# Altium integrated library linear.IntLib: 649 symbols (part 2 of 4)
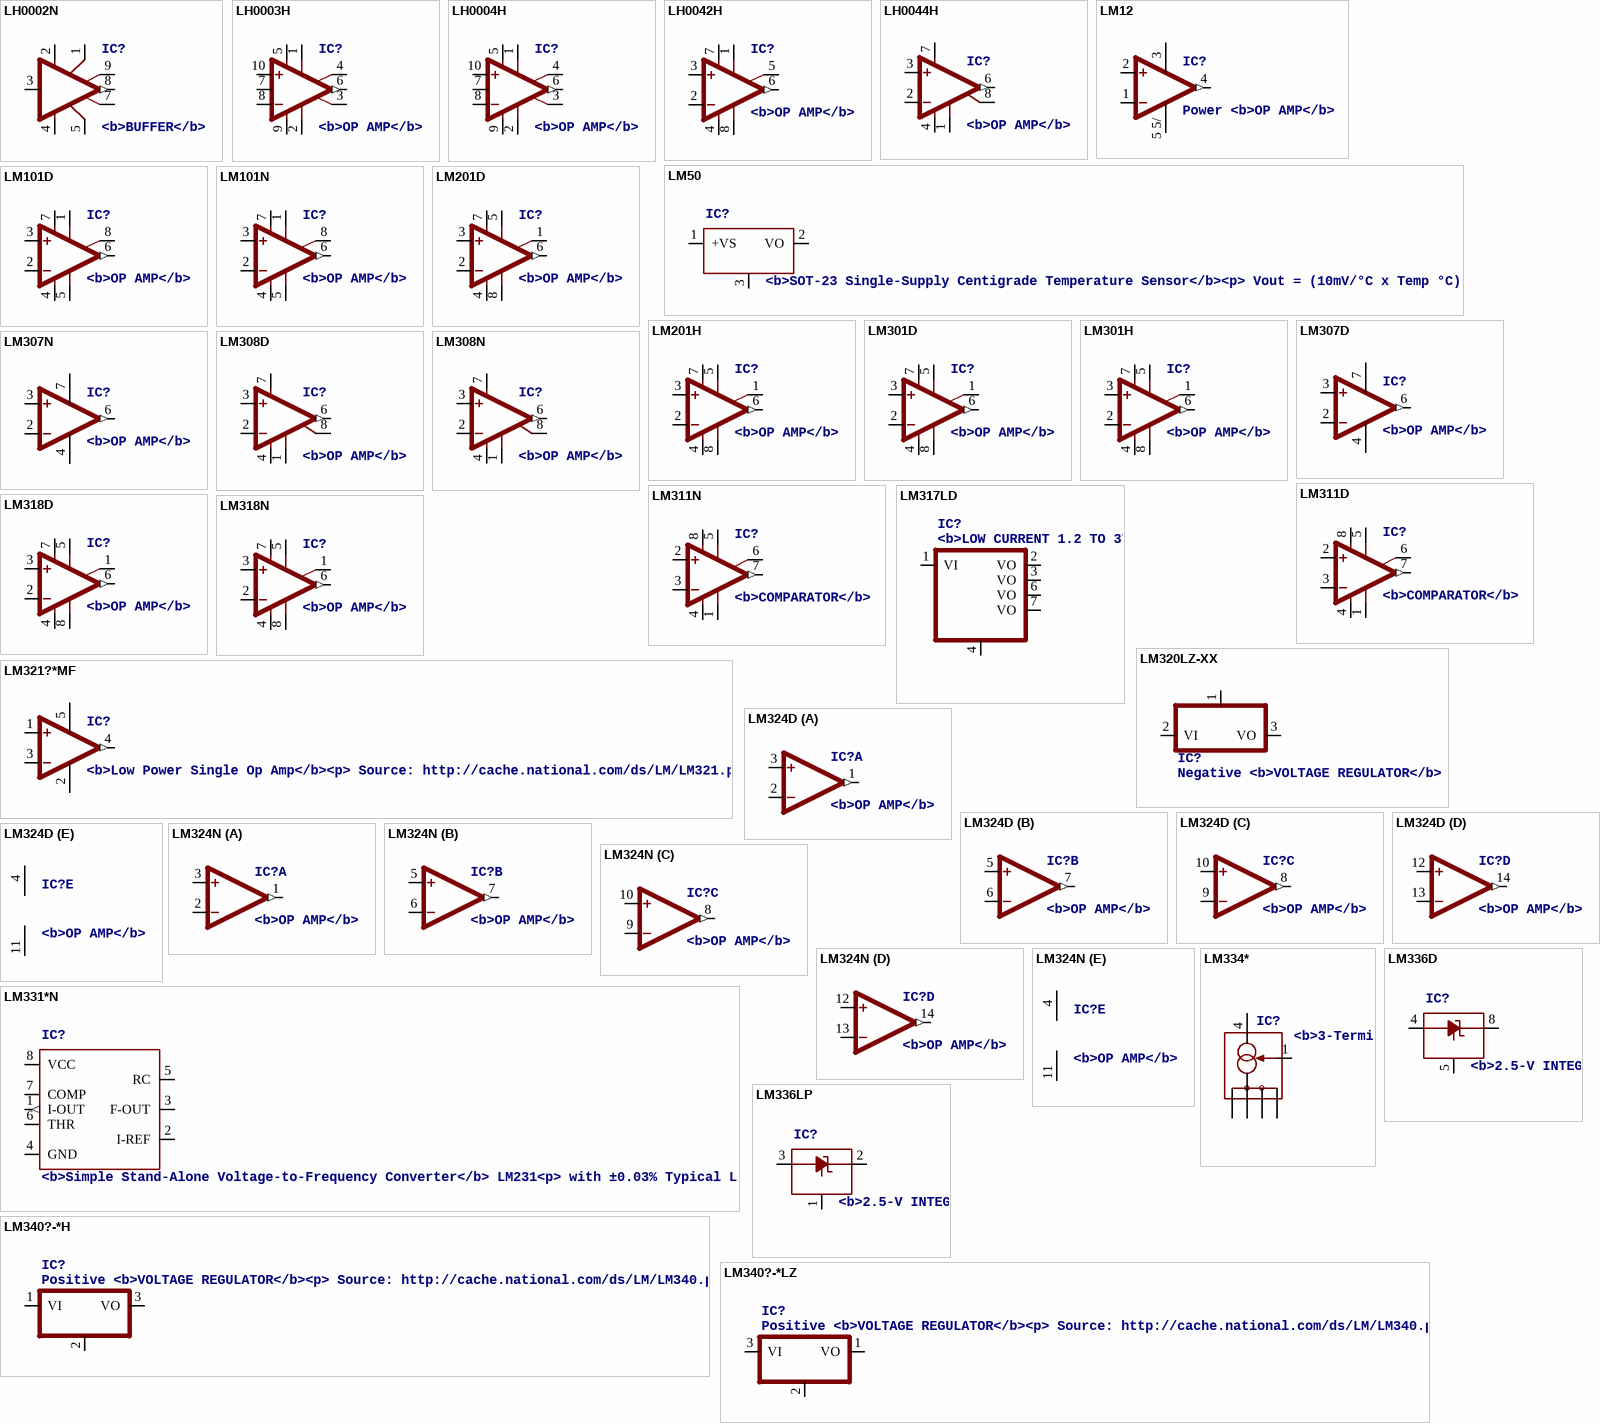
[diagram p48: symbols LH0002N to LM340?-*LZ]

## LM324D
designator IC?, comment <b>OP AMP</b>
footprint SO14
part A pins: 1 OUT (out), 2 -IN, 3 +IN
part B pins: 5 +IN, 6 -IN, 7 OUT (out)
part C pins: 8 OUT (out), 9 -IN, 10 +IN
part D pins: 12 +IN, 13 -IN, 14 OUT (out)
part E pins: 4 V+ (power), 11 V- (power)

## LM324N
designator IC?, comment <b>OP AMP</b>
footprint DIL14
part A pins: 1 OUT (out), 2 -IN, 3 +IN
part B pins: 5 +IN, 6 -IN, 7 OUT (out)
part C pins: 8 OUT (out), 9 -IN, 10 +IN
part D pins: 12 +IN, 13 -IN, 14 OUT (out)
part E pins: 4 V+ (power), 11 V- (power)

## LM331*N
designator IC?, comment <b>Simple Stand-Alone Voltage-to-Frequency Converter</b> LM231<p> / with ±0.03% Typical Linearity (f = 10 Hz to 11 kHz)
footprint DIL08
pins: 1 I-OUT (out), 2 I-REF, 3 F-OUT (oc), 4 GND (power), 5 RC, 6 THR, 7 COMP, 8 VCC (power)

## LM334*
designator IC?, comment <b>3-Terminal Adjustable Current Sources</b><br> / Source: www.national.com/pf/LM/LM334.html | LM134.pdf
footprint SO08
pins: 1 R, 2 V-, 3 V-, 4 V+, 6 V-, 7 V-

## LM336D
designator IC?, comment <b>2.5-V INTEGRATED REFERENCE CIRCUITS</b><p> / LM236<br> / Source: http://focus.ti.com/lit/ds/symlink/lm336-2.5.pdf
footprint SO08
pins: 4 A, 5 ADJ, 8 C

## LM336LP
designator IC?, comment <b>2.5-V INTEGRATED REFERENCE CIRCUITS</b><p> / LM236<br> / Source: http://focus.ti.com/lit/ds/symlink/lm336-2.5.pdf
footprint TO92
pins: 1 ADJ, 2 C, 3 A

## LM340?-*H
designator IC?, comment Positive <b>VOLTAGE REGULATOR</b><p> / Source: http://cache.national.com/ds/LM/LM340.pdf
footprint TO220H
pins: 1 VI, 2 GND, 3 VO

## LM340?-*LZ
designator IC?, comment Positive <b>VOLTAGE REGULATOR</b><p> / Source: http://cache.national.com/ds/LM/LM340.pdf
footprint TO92
pins: 1 VO, 2 GND, 3 VI

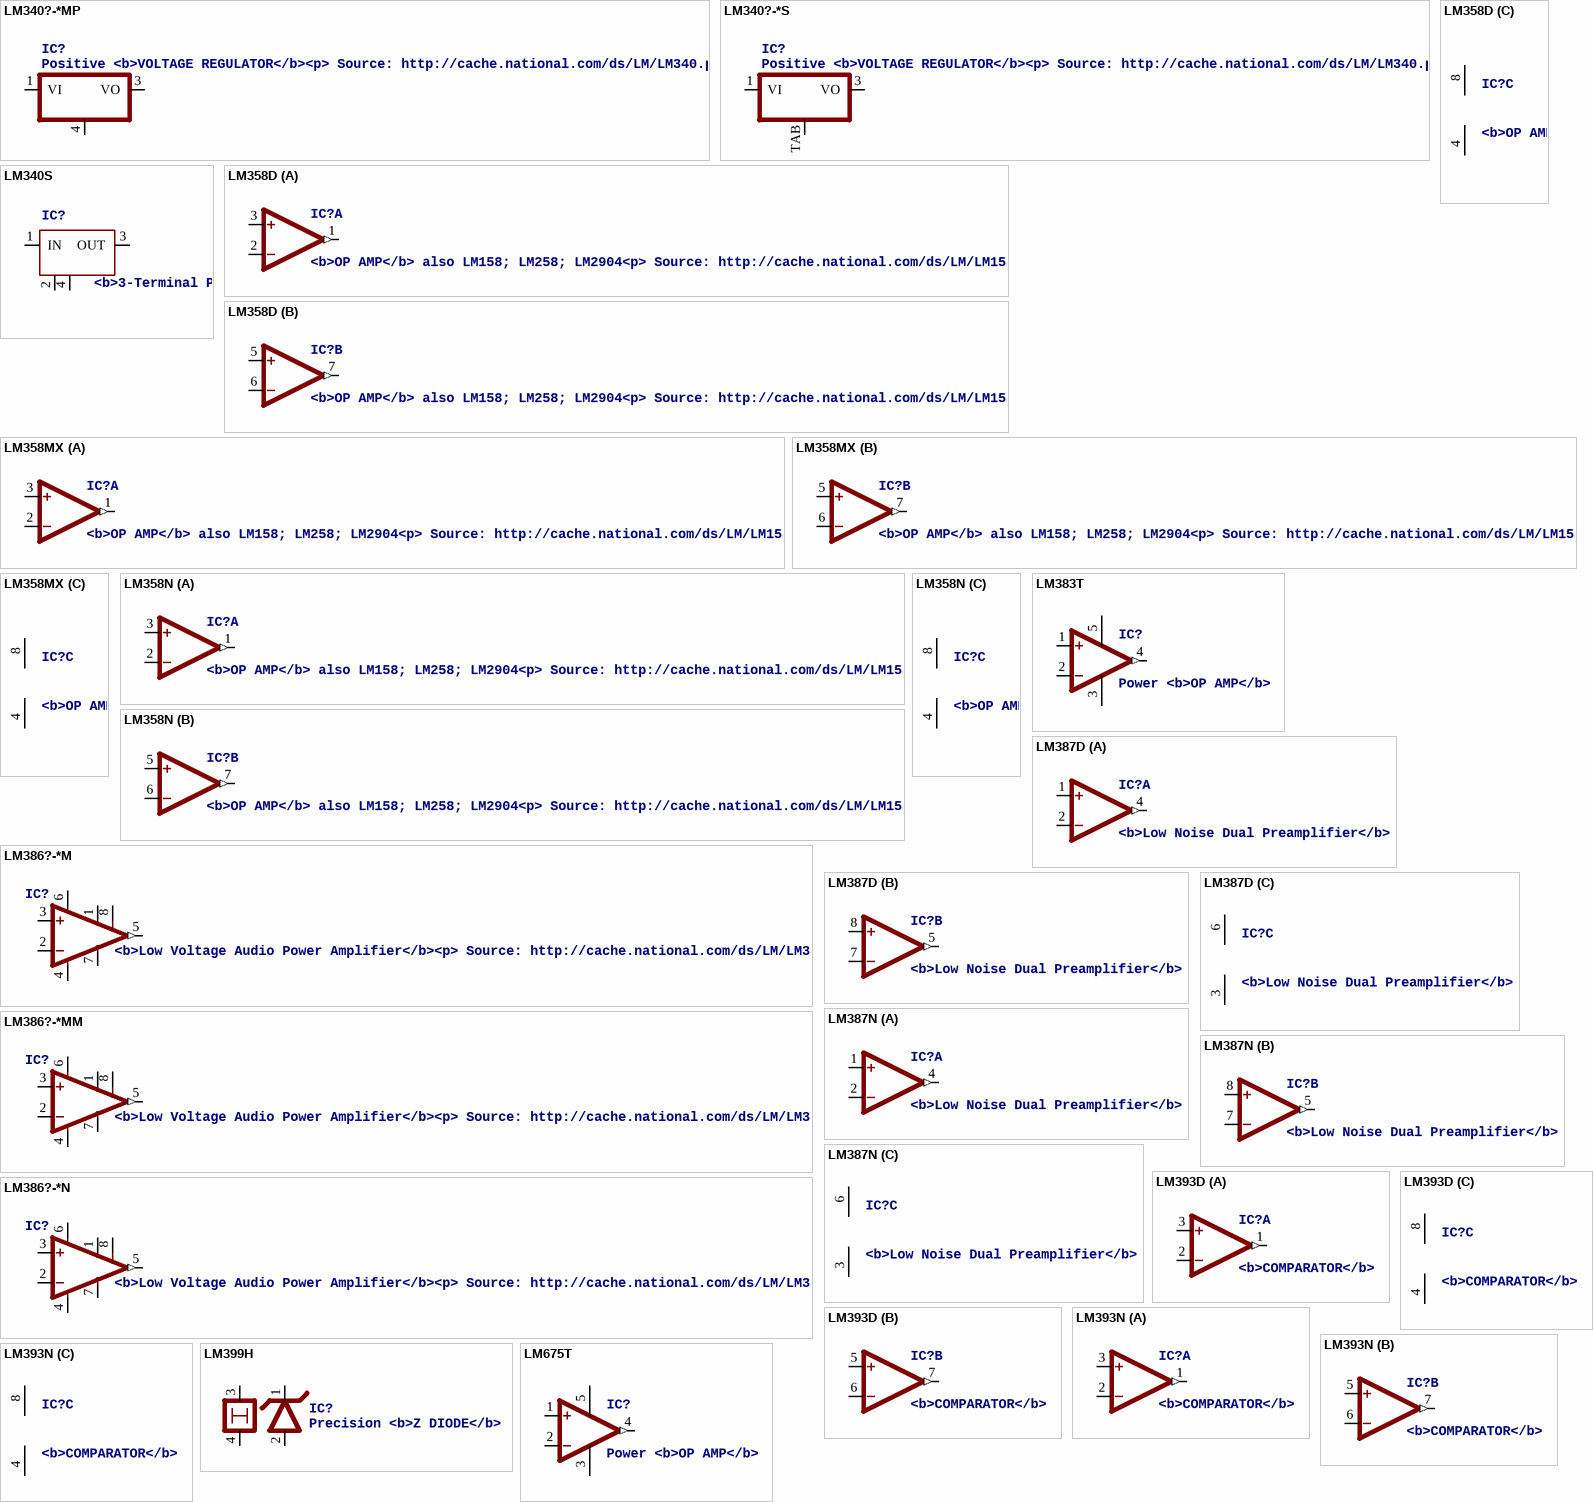
[diagram p15: symbols LM340?-*MP to LM675T]

## LM340?-*MP
designator IC?, comment Positive <b>VOLTAGE REGULATOR</b><p> / Source: http://cache.national.com/ds/LM/LM340.pdf
footprint SOT223
pins: 1 VI, 3 VO, 4 GND

## LM340?-*S
designator IC?, comment Positive <b>VOLTAGE REGULATOR</b><p> / Source: http://cache.national.com/ds/LM/LM340.pdf
footprint TO263-3
pins: 1 VI, 3 VO, TAB GND

## LM340S
designator IC?, comment <b>3-Terminal Positive Regulators</b><p> / Source: http://cache.national.com/ds/LM/LM340.pdf
footprint SOT223
pins: 1 IN, 2 GND (power), 3 OUT, 4 GND (power)

## LM358D
designator IC?, comment <b>OP AMP</b> also LM158; LM258; LM2904<p> / Source: http://cache.national.com/ds/LM/LM158.pdf
footprint SO08
part A pins: 1 OUT (out), 2 -IN, 3 +IN
part B pins: 5 +IN, 6 -IN, 7 OUT (out)
part C pins: 4 V- (power), 8 V+ (power)

## LM358MX
designator IC?, comment <b>OP AMP</b> also LM158; LM258; LM2904<p> / Source: http://cache.national.com/ds/LM/LM158.pdf
footprint SO08
part A pins: 1 OUT (out), 2 -IN, 3 +IN
part B pins: 5 +IN, 6 -IN, 7 OUT (out)
part C pins: 4 V- (power), 8 V+ (power)

## LM358N
designator IC?, comment <b>OP AMP</b> also LM158; LM258; LM2904<p> / Source: http://cache.national.com/ds/LM/LM158.pdf
footprint DIL08
part A pins: 1 OUT (out), 2 -IN, 3 +IN
part B pins: 5 +IN, 6 -IN, 7 OUT (out)
part C pins: 4 V- (power), 8 V+ (power)

## LM383T
designator IC?, comment Power <b>OP AMP</b>
footprint CB367
pins: 1 +IN, 2 -IN, 3 GND (power), 4 OUT (out), 5 V+ (power)

## LM386?-*M
designator IC?, comment <b>Low Voltage Audio Power Amplifier</b><p> / Source: http://cache.national.com/ds/LM/LM386.pdf
footprint SO08
pins: 1 GAIN, 2 -IN, 3 +IN, 4 GND (power), 5 OUT (out), 6 VS (power), 7 BYPASS, 8 GAIN

## LM386?-*MM
designator IC?, comment <b>Low Voltage Audio Power Amplifier</b><p> / Source: http://cache.national.com/ds/LM/LM386.pdf
footprint MMSOP08
pins: 1 GAIN, 2 -IN, 3 +IN, 4 GND (power), 5 OUT (out), 6 VS (power), 7 BYPASS, 8 GAIN

## LM386?-*N
designator IC?, comment <b>Low Voltage Audio Power Amplifier</b><p> / Source: http://cache.national.com/ds/LM/LM386.pdf
footprint DIL08
pins: 1 GAIN, 2 -IN, 3 +IN, 4 GND (power), 5 OUT (out), 6 VS (power), 7 BYPASS, 8 GAIN

## LM387D
designator IC?, comment <b>Low Noise Dual Preamplifier</b>
footprint SO08
part A pins: 1 +IN, 2 -IN, 4 OUT (out)
part B pins: 5 OUT (out), 7 -IN, 8 +IN
part C pins: 3 GND (power), 6 V+ (power)

## LM387N
designator IC?, comment <b>Low Noise Dual Preamplifier</b>
footprint DIL08
part A pins: 1 +IN, 2 -IN, 4 OUT (out)
part B pins: 5 OUT (out), 7 -IN, 8 +IN
part C pins: 3 GND (power), 6 V+ (power)

## LM393D
designator IC?, comment <b>COMPARATOR</b>
footprint SO08
part A pins: 1 OUT (out), 2 -IN, 3 +IN
part B pins: 5 +IN, 6 -IN, 7 OUT (out)
part C pins: 4 V- (power), 8 V+ (power)

## LM393N
designator IC?, comment <b>COMPARATOR</b>
footprint DIL08
part A pins: 1 OUT (out), 2 -IN, 3 +IN
part B pins: 5 +IN, 6 -IN, 7 OUT (out)
part C pins: 4 V- (power), 8 V+ (power)

## LM399H
designator IC?, comment Precision <b>Z DIODE</b>
footprint TO39/4
pins: 1, 2, 3, 4

## LM675T
designator IC?, comment Power <b>OP AMP</b>
footprint CB367
pins: 1 +IN, 2 -IN, 3 V- (power), 4 OUT (out), 5 V+ (power)

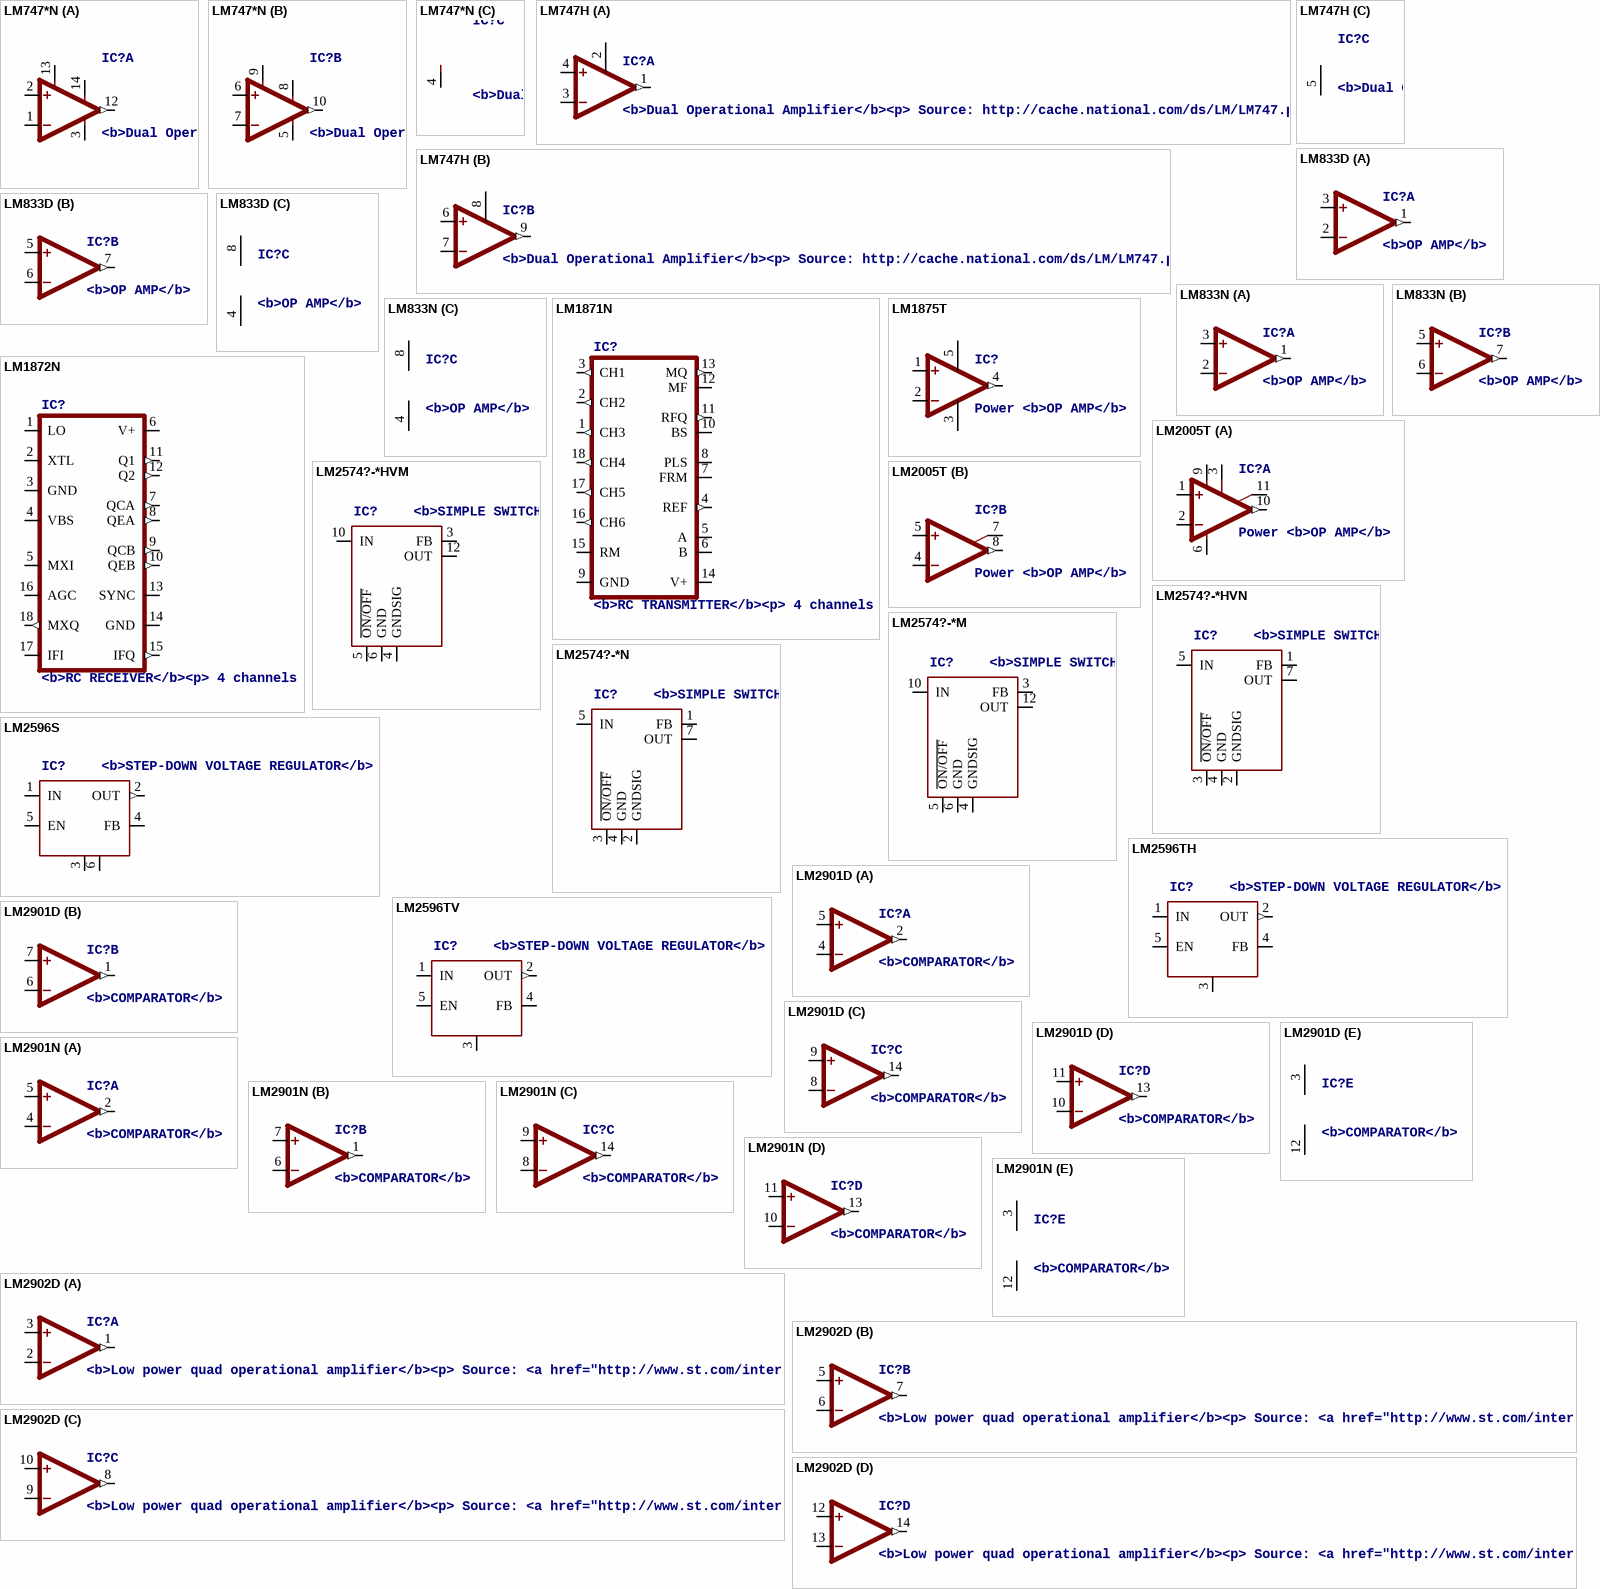
[diagram p16: symbols LM747*N to LM2902D]

## LM747*N
designator IC?, comment <b>Dual Operational Amplifier</b><p> / Source: http://cache.national.com/ds/LM/LM747.pdf
footprint DIL14
part A pins: 1 -IN, 2 +IN, 3 NULL1, 12 OUT (out), 13 V+ (power), 14 NULL2
part B pins: 5 NULL1, 6 +IN, 7 -IN, 8 NULL2, 9 V+ (power), 10 OUT (out)
part C pins: 4 V- (power)

## LM747H
designator IC?, comment <b>Dual Operational Amplifier</b><p> / Source: http://cache.national.com/ds/LM/LM747.pdf
footprint H10C
part A pins: 1 OUT (out), 2 V+ (power), 3 -IN, 4 +IN
part B pins: 6 +IN, 7 -IN, 8 V+ (power), 9 OUT (out)
part C pins: 5 V- (power)

## LM833D
designator IC?, comment <b>OP AMP</b>
footprint SO08
part A pins: 1 OUT (out), 2 -IN, 3 +IN
part B pins: 5 +IN, 6 -IN, 7 OUT (out)
part C pins: 4 V- (power), 8 V+ (power)

## LM833N
designator IC?, comment <b>OP AMP</b>
footprint DIL08
part A pins: 1 OUT (out), 2 -IN, 3 +IN
part B pins: 5 +IN, 6 -IN, 7 OUT (out)
part C pins: 4 V- (power), 8 V+ (power)

## LM1871N
designator IC?, comment <b>RC TRANSMITTER</b><p> / 4 channels
footprint DIL18
pins: 1 CH3 (out), 2 CH2 (out), 3 CH1 (out), 4 REF (out), 5 A, 6 B, 7 FRM, 8 PLS, 9 GND (power), 10 BS, 11 RFQ (out), 12 MF, 13 MQ (out), 14 V+ (power), 15 RM, 16 CH6 (out), 17 CH5 (out), 18 CH4 (out)

## LM1872N
designator IC?, comment <b>RC RECEIVER</b><p> / 4 channels
footprint DIL18
pins: 1 LO, 2 XTL, 3 GND, 4 VBS, 5 MXI, 6 V+, 7 QCA (out), 8 QEA (out), 9 QCB (out), 10 QEB (out), 11 Q1 (out), 12 Q2 (out), 13 SYNC, 14 GND, 15 IFQ (out), 16 AGC, 17 IFI, 18 MXQ (out)

## LM1875T
designator IC?, comment Power <b>OP AMP</b>
footprint CB367
pins: 1 +IN, 2 -IN, 3 V- (power), 4 OUT (out), 5 V+ (power)

## LM2005T
designator IC?, comment Power <b>OP AMP</b>
footprint SIP11
part A pins: 1 +IN, 2 -IN, 3 SVRR, 6 GND (power), 9 V+ (power), 10 OUT (out), 11 BTSP
part B pins: 4 -IN, 5 +IN, 7 BTSP, 8 OUT (out)

## LM2574?-*HVM
designator IC?, comment <b>SIMPLE SWITCHER 0.5A Step-Down Voltage Regulator</b><p> / Source: http://cache.national.com/ds/LM/LM2574.pdf
footprint SO14W
pins: 3 FB, 4 GNDSIG, 5 ~{ON/OFF}, 6 GND (power), 10 IN, 12 OUT

## LM2574?-*HVN
designator IC?, comment <b>SIMPLE SWITCHER 0.5A Step-Down Voltage Regulator</b><p> / Source: http://cache.national.com/ds/LM/LM2574.pdf
footprint DIL08
pins: 1 FB, 2 GNDSIG, 3 ~{ON/OFF}, 4 GND (power), 5 IN, 7 OUT

## LM2574?-*M
designator IC?, comment <b>SIMPLE SWITCHER 0.5A Step-Down Voltage Regulator</b><p> / Source: http://cache.national.com/ds/LM/LM2574.pdf
footprint SO14W
pins: 3 FB, 4 GNDSIG, 5 ~{ON/OFF}, 6 GND (power), 10 IN, 12 OUT

## LM2574?-*N
designator IC?, comment <b>SIMPLE SWITCHER 0.5A Step-Down Voltage Regulator</b><p> / Source: http://cache.national.com/ds/LM/LM2574.pdf
footprint DIL08
pins: 1 FB, 2 GNDSIG, 3 ~{ON/OFF}, 4 GND (power), 5 IN, 7 OUT

## LM2596S
designator IC?, comment <b>STEP-DOWN VOLTAGE REGULATOR</b>
footprint TO263-5
pins: 1 IN, 2 OUT (out), 3 GND (power), 4 FB, 5 EN, 6 GND (power)

## LM2596TH
designator IC?, comment <b>STEP-DOWN VOLTAGE REGULATOR</b>
footprint TO220-52
pins: 1 IN, 2 OUT (out), 3 GND (power), 4 FB, 5 EN

## LM2596TV
designator IC?, comment <b>STEP-DOWN VOLTAGE REGULATOR</b>
footprint TO220-51
pins: 1 IN, 2 OUT (out), 3 GND (power), 4 FB, 5 EN

## LM2901D
designator IC?, comment <b>COMPARATOR</b>
footprint SO14
part A pins: 2 OUT (out), 4 -IN, 5 +IN
part B pins: 1 OUT (out), 6 -IN, 7 +IN
part C pins: 8 -IN, 9 +IN, 14 OUT (out)
part D pins: 10 -IN, 11 +IN, 13 OUT (out)
part E pins: 3 V+ (power), 12 V- (power)

## LM2901N
designator IC?, comment <b>COMPARATOR</b>
footprint DIL14
part A pins: 2 OUT (out), 4 -IN, 5 +IN
part B pins: 1 OUT (out), 6 -IN, 7 +IN
part C pins: 8 -IN, 9 +IN, 14 OUT (out)
part D pins: 10 -IN, 11 +IN, 13 OUT (out)
part E pins: 3 V+ (power), 12 V- (power)

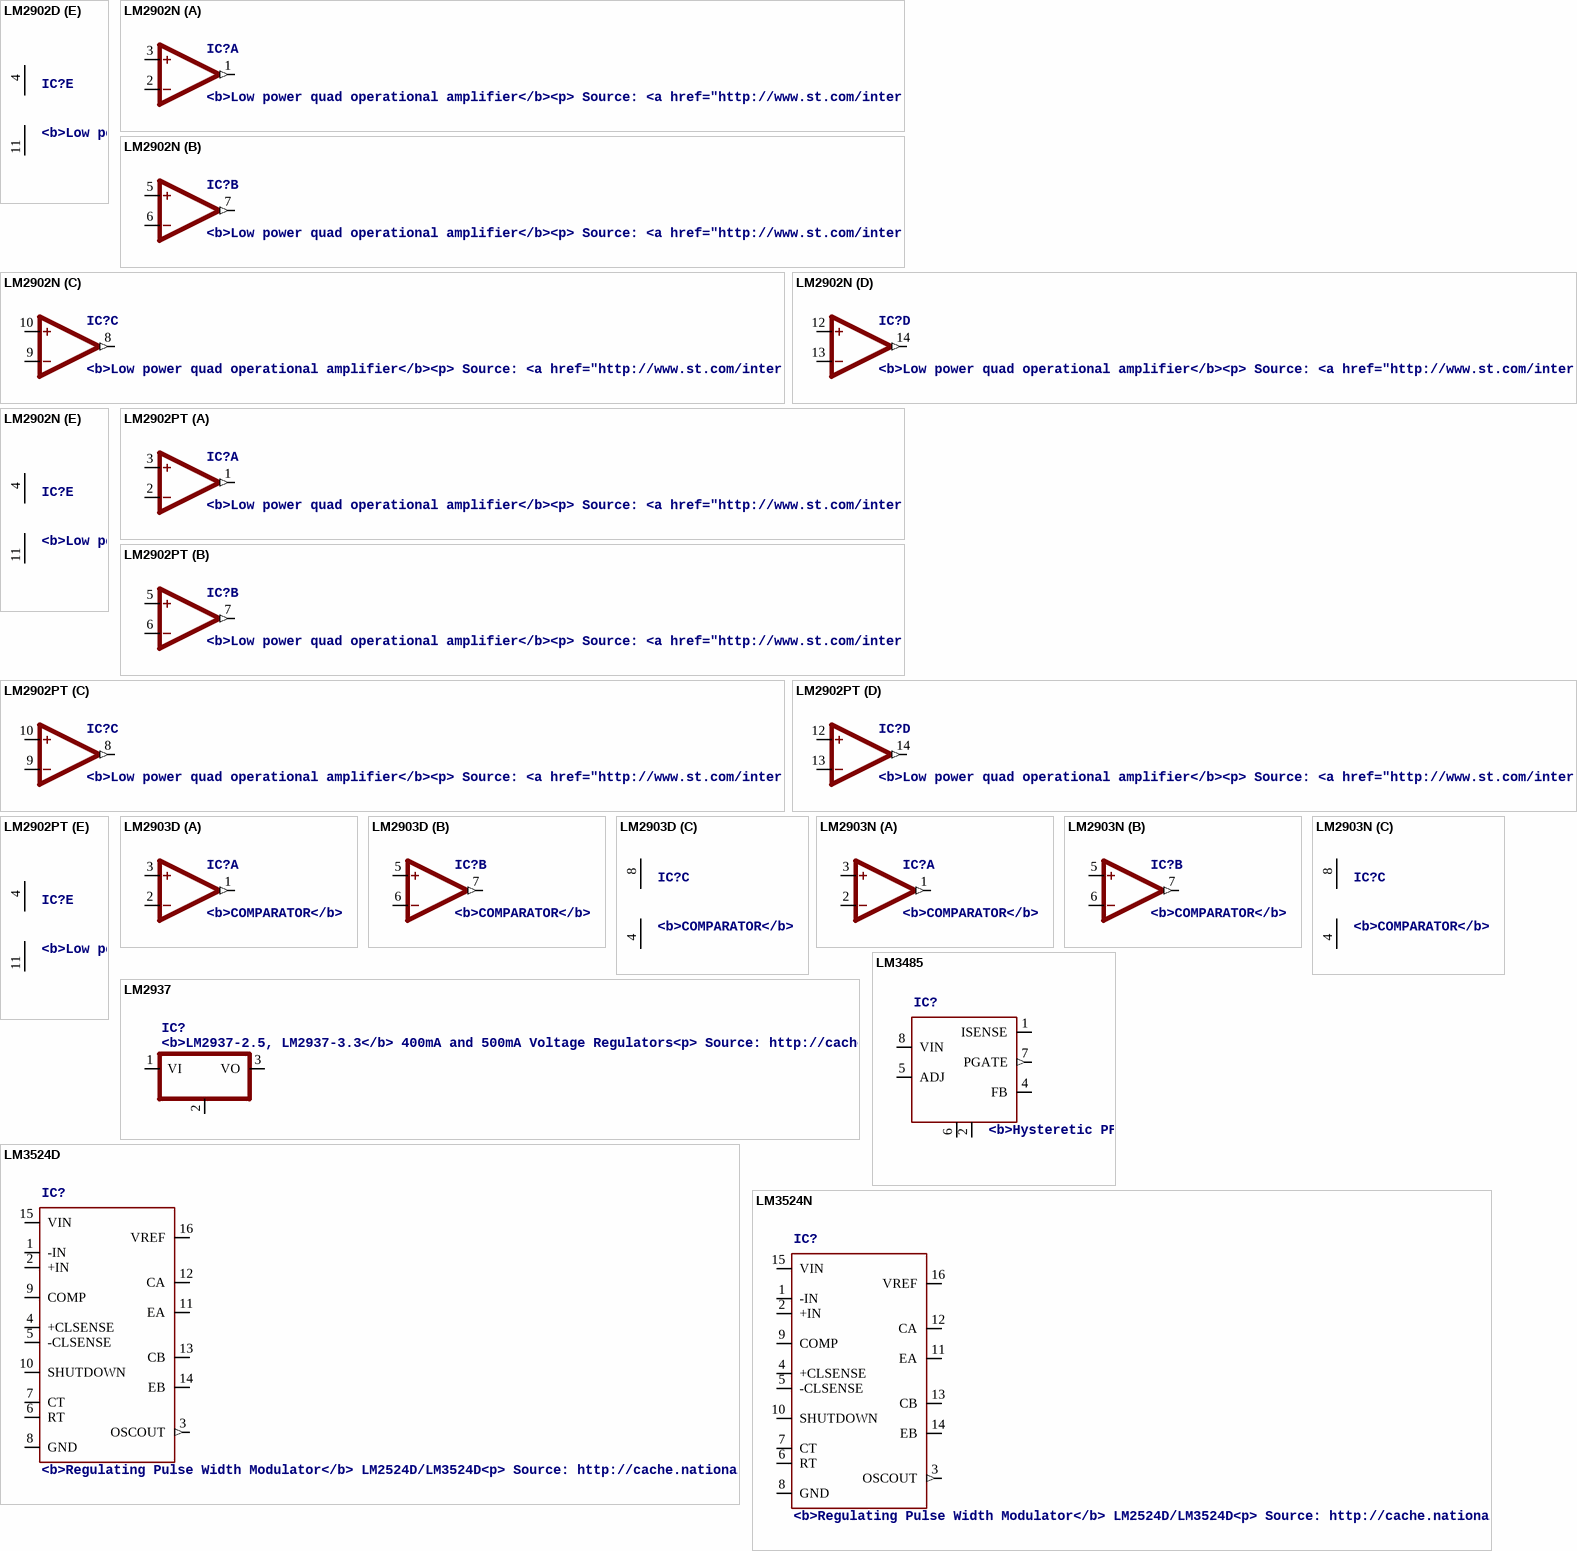
[diagram p17: symbols LM2902D to LM3524N]

## LM2902D
designator IC?, comment <b>Low power quad operational amplifier</b><p> / Source: <a href="http://www.st.com/internet/com/TECHNICAL_RESOURCES/TECHNICAL_LITERATURE/DATASHEET/CD00000533.pdf"> Data sgeet </a>
footprint SO14
part A pins: 1 OUT (out), 2 -IN, 3 +IN
part B pins: 5 +IN, 6 -IN, 7 OUT (out)
part C pins: 8 OUT (out), 9 -IN, 10 +IN
part D pins: 12 +IN, 13 -IN, 14 OUT (out)
part E pins: 4 V+ (power), 11 V- (power)

## LM2902N
designator IC?, comment <b>Low power quad operational amplifier</b><p> / Source: <a href="http://www.st.com/internet/com/TECHNICAL_RESOURCES/TECHNICAL_LITERATURE/DATASHEET/CD00000533.pdf"> Data sgeet </a>
footprint DIL14
part A pins: 1 OUT (out), 2 -IN, 3 +IN
part B pins: 5 +IN, 6 -IN, 7 OUT (out)
part C pins: 8 OUT (out), 9 -IN, 10 +IN
part D pins: 12 +IN, 13 -IN, 14 OUT (out)
part E pins: 4 V+ (power), 11 V- (power)

## LM2902PT
designator IC?, comment <b>Low power quad operational amplifier</b><p> / Source: <a href="http://www.st.com/internet/com/TECHNICAL_RESOURCES/TECHNICAL_LITERATURE/DATASHEET/CD00000533.pdf"> Data sgeet </a>
footprint SSOP14
part A pins: 1 OUT (out), 2 -IN, 3 +IN
part B pins: 5 +IN, 6 -IN, 7 OUT (out)
part C pins: 8 OUT (out), 9 -IN, 10 +IN
part D pins: 12 +IN, 13 -IN, 14 OUT (out)
part E pins: 4 V+ (power), 11 V- (power)

## LM2903D
designator IC?, comment <b>COMPARATOR</b>
footprint SO08
part A pins: 1 OUT (out), 2 -IN, 3 +IN
part B pins: 5 +IN, 6 -IN, 7 OUT (out)
part C pins: 4 V- (power), 8 V+ (power)

## LM2903N
designator IC?, comment <b>COMPARATOR</b>
footprint DIL08
part A pins: 1 OUT (out), 2 -IN, 3 +IN
part B pins: 5 +IN, 6 -IN, 7 OUT (out)
part C pins: 4 V- (power), 8 V+ (power)

## LM2937
designator IC?, comment <b>LM2937-2.5, LM2937-3.3</b> 400mA and 500mA Voltage Regulators<p> / Source: http://cache.national.com/ds/LM/LM2937-2.5.pdf
footprint TO263-3
pins: 1 VI, 2 GND, 3 VO

## LM3485
designator IC?, comment <b>Hysteretic PFET Buck Controller</b><p> / Source: http://cache.national.com/ds/LM/LM3485.pdf
footprint MSOP08
pins: 1 ISENSE, 2 GND (power), 4 FB, 5 ADJ, 6 GND (power), 7 PGATE (out), 8 VIN

## LM3524D
designator IC?, comment <b>Regulating Pulse Width Modulator</b> LM2524D/LM3524D<p> / Source: http://cache.national.com/ds/LM/LM2524D.pdf
footprint SO16
pins: 1 -IN, 2 +IN, 3 OSCOUT (out), 4 +CLSENSE, 5 -CLSENSE, 6 RT, 7 CT, 8 GND (power), 9 COMP, 10 SHUTDOWN, 11 EA, 12 CA, 13 CB, 14 EB, 15 VIN, 16 VREF

## LM3524N
designator IC?, comment <b>Regulating Pulse Width Modulator</b> LM2524D/LM3524D<p> / Source: http://cache.national.com/ds/LM/LM2524D.pdf
footprint DIL16
pins: 1 -IN, 2 +IN, 3 OSCOUT (out), 4 +CLSENSE, 5 -CLSENSE, 6 RT, 7 CT, 8 GND (power), 9 COMP, 10 SHUTDOWN, 11 EA, 12 CA, 13 CB, 14 EB, 15 VIN, 16 VREF

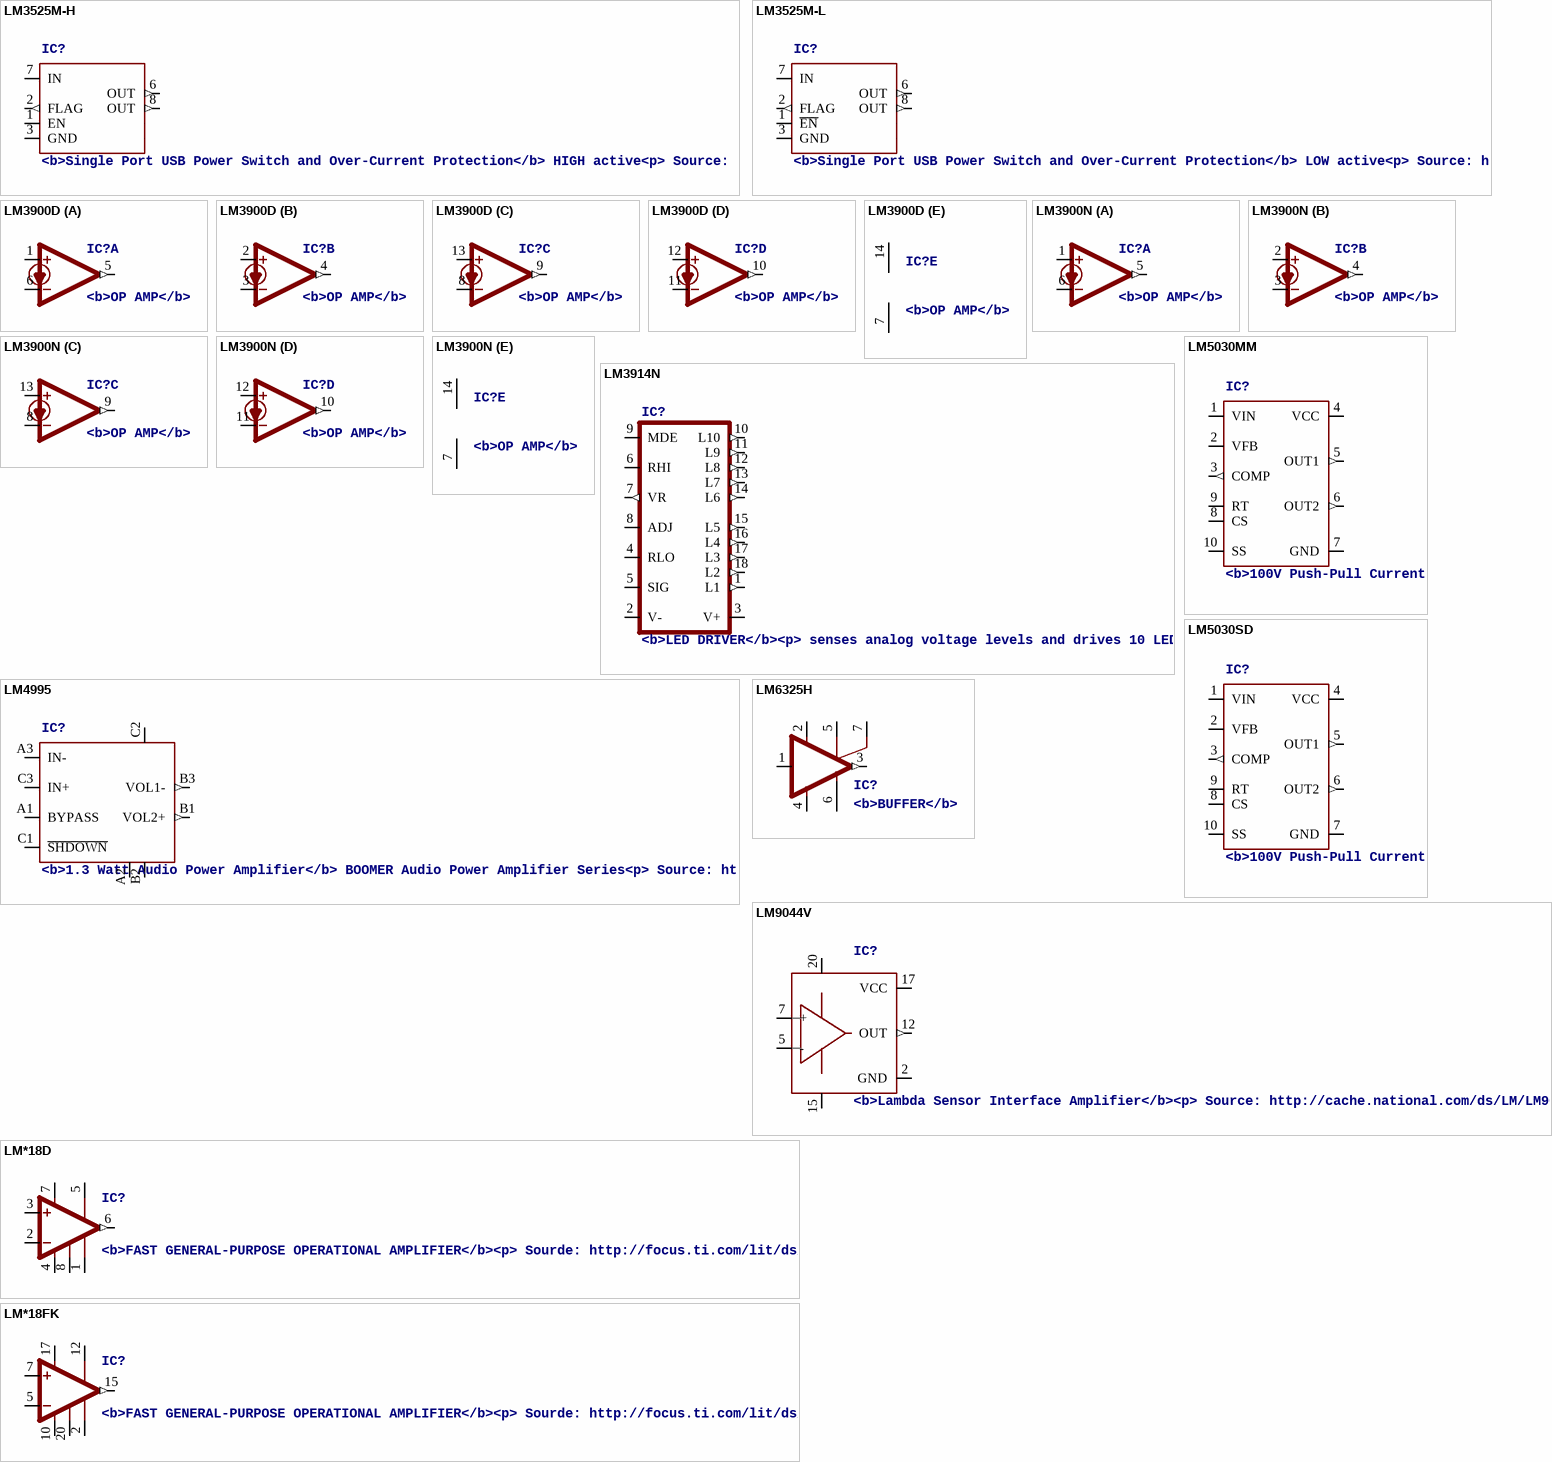
[diagram p18: symbols LM3525M-H to LM*18FK]

## LM3525M-H
designator IC?, comment <b>Single Port USB Power Switch and Over-Current Protection</b> HIGH active<p> / Source: http://cache.national.com/ds/LM/LM3525.pdf
footprint SO08
pins: 1 EN, 2 FLAG (out), 3 GND (power), 4 NC, 5 NC, 6 OUT (out), 7 IN, 8 OUT (out)

## LM3525M-L
designator IC?, comment <b>Single Port USB Power Switch and Over-Current Protection</b> LOW active<p> / Source: http://cache.national.com/ds/LM/LM3525.pdf
footprint SO08
pins: 1 ~{EN}, 2 FLAG (out), 3 GND (power), 4 NC, 5 NC, 6 OUT (out), 7 IN, 8 OUT (out)

## LM3900D
designator IC?, comment <b>OP AMP</b>
footprint SO14
part A pins: 1 +IN, 5 OUT (out), 6 -IN
part B pins: 2 +IN, 3 -IN, 4 OUT (out)
part C pins: 8 -IN, 9 OUT (out), 13 +IN
part D pins: 10 OUT (out), 11 -IN, 12 +IN
part E pins: 7 GND (power), 14 V+ (power)

## LM3900N
designator IC?, comment <b>OP AMP</b>
footprint DIL14
part A pins: 1 +IN, 5 OUT (out), 6 -IN
part B pins: 2 +IN, 3 -IN, 4 OUT (out)
part C pins: 8 -IN, 9 OUT (out), 13 +IN
part D pins: 10 OUT (out), 11 -IN, 12 +IN
part E pins: 7 GND (power), 14 V+ (power)

## LM3914N
designator IC?, comment <b>LED DRIVER</b><p> / senses analog voltage levels and drives 10 LEDs
footprint DIL18
pins: 1 L1 (out), 2 V- (power), 3 V+ (power), 4 RLO, 5 SIG, 6 RHI, 7 VR (out), 8 ADJ, 9 MDE, 10 L10 (out), 11 L9 (out), 12 L8 (out), 13 L7 (out), 14 L6 (out), 15 L5 (out), 16 L4 (out), 17 L3 (out), 18 L2 (out)

## LM4995
designator IC?, comment <b>1.3 Watt Audio Power Amplifier</b> BOOMER Audio Power Amplifier Series<p> / Source: http://www.national.com .. LM4995.pdf
footprint TMD09AAA
pins: A1 BYPASS, A2 GND (power), A3 IN-, B1 VOL2+ (out), B2 GND (power), B3 VOL1- (out), C1 ~{SHDOWN}, C2 VDD (power), C3 IN+

## LM5030MM
designator IC?, comment <b>100V Push-Pull Current Mode PWM Controller</b><p> / Source: http://cache.national.com/ds/LM/LM5030.pdf
footprint MSOP10
pins: 1 VIN, 2 VFB, 3 COMP (out), 4 VCC (power), 5 OUT1 (out), 6 OUT2 (out), 7 GND (power), 8 CS, 9 RT, 10 SS

## LM5030SD
designator IC?, comment <b>100V Push-Pull Current Mode PWM Controller</b><p> / Source: http://cache.national.com/ds/LM/LM5030.pdf
footprint LLP10
pins: 1 VIN, 2 VFB, 3 COMP (out), 4 VCC (power), 5 OUT1 (out), 6 OUT2 (out), 7 GND (power), 8 CS, 9 RT, 10 SS

## LM6325H
designator IC?, comment <b>BUFFER</b>
footprint TO99
pins: 1 IN, 2 V+ (power), 3 OUT (out), 4 V- (power), 5 FLG, 6 GND (power), 7 S/D

## LM9044V
designator IC?, comment <b>Lambda Sensor Interface Amplifier</b><p> / Source: http://cache.national.com/ds/LM/LM9044.pdf
footprint PLCC20S
pins: 2 GND (power), 5 -, 7 +, 12 OUT (out), 15 RF, 17 VCC (power), 20 VREF

## LM*18D
designator IC?, comment <b>FAST GENERAL-PURPOSE OPERATIONAL AMPLIFIER</b><p> / Sourde: http://focus.ti.com/lit/ds/slos063b/slos063b.pdf
footprint SOIC8
pins: 1 BAL1, 2 -IN, 3 +IN, 4 V- (power), 5 BAL2, 6 OUT (out), 7 V+ (power), 8 COMP

## LM*18FK
designator IC?, comment <b>FAST GENERAL-PURPOSE OPERATIONAL AMPLIFIER</b><p> / Sourde: http://focus.ti.com/lit/ds/slos063b/slos063b.pdf
footprint LCCC20
pins: 2 BAL1, 5 -IN, 7 +IN, 10 V- (power), 12 BAL2, 15 OUT (out), 17 V+ (power), 20 COMP

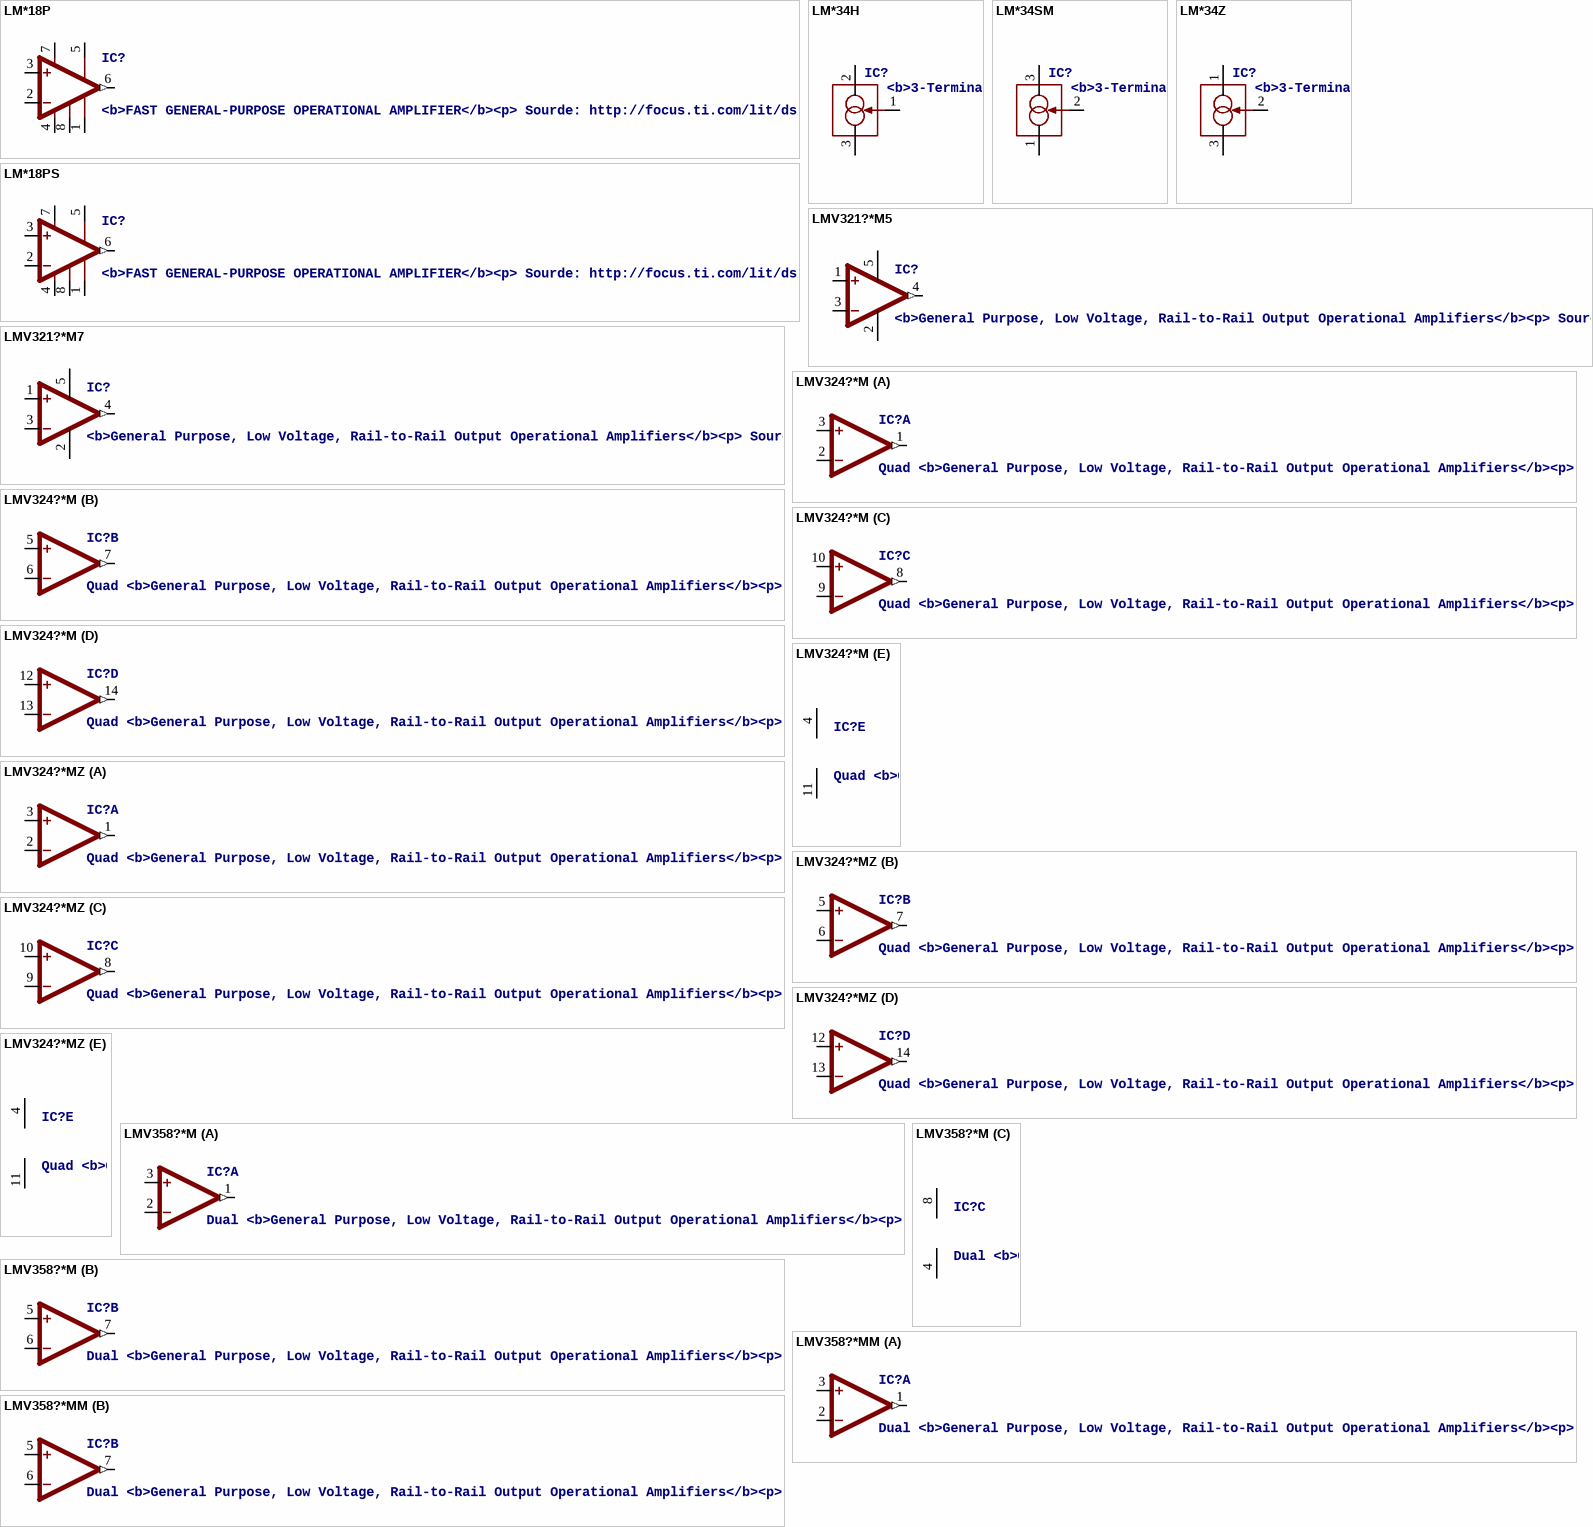
[diagram p19: symbols LM*18P to LMV358?*MM]

## LM*18P
designator IC?, comment <b>FAST GENERAL-PURPOSE OPERATIONAL AMPLIFIER</b><p> / Sourde: http://focus.ti.com/lit/ds/slos063b/slos063b.pdf
footprint DIL08
pins: 1 BAL1, 2 -IN, 3 +IN, 4 V- (power), 5 BAL2, 6 OUT (out), 7 V+ (power), 8 COMP

## LM*18PS
designator IC?, comment <b>FAST GENERAL-PURPOSE OPERATIONAL AMPLIFIER</b><p> / Sourde: http://focus.ti.com/lit/ds/slos063b/slos063b.pdf
footprint PS_R-PDSO-G8
pins: 1 BAL1, 2 -IN, 3 +IN, 4 V- (power), 5 BAL2, 6 OUT (out), 7 V+ (power), 8 COMP

## LM*34H
designator IC?, comment <b>3-Terminal Adjustable Current Sources</b><br> / Source: www.national.com/pf/LM/LM334.html | LM134.pdf
footprint TO46
pins: 1 R, 2 V+, 3 V-

## LM*34SM
designator IC?, comment <b>3-Terminal Adjustable Current Sources</b><br> / Source: www.national.com/pf/LM/LM334.html | LM134.pdf
footprint SO08
pins: 1 V-, 2 R, 3 V+

## LM*34Z
designator IC?, comment <b>3-Terminal Adjustable Current Sources</b><br> / Source: www.national.com/pf/LM/LM334.html | LM134.pdf
footprint TO92
pins: 1 V+, 2 R, 3 V-

## LMV321?*M5
designator IC?, comment <b>General Purpose, Low Voltage, Rail-to-Rail Output Operational Amplifiers</b><p> / Source: http://www.national.com/mpf/LM/LMV321.html<br> / http://www.national.com/dt/lmv_qual.pdf
footprint SOT23-5
pins: 1 +IN, 2 V- (power), 3 -IN, 4 OUT (out), 5 V+ (power)

## LMV321?*M7
designator IC?, comment <b>General Purpose, Low Voltage, Rail-to-Rail Output Operational Amplifiers</b><p> / Source: http://www.national.com/mpf/LM/LMV321.html<br> / http://www.national.com/dt/lmv_qual.pdf
footprint SC70-5L
pins: 1 +IN, 2 V- (power), 3 -IN, 4 OUT (out), 5 V+ (power)

## LMV324?*M
designator IC?, comment Quad <b>General Purpose, Low Voltage, Rail-to-Rail Output Operational Amplifiers</b><p> / Source: http://www.national.com/mpf/LM/LMV321.html<br> / http://www.national.com/dt/lmv_qual.pdf
footprint SO14
part A pins: 1 OUT (out), 2 -IN, 3 +IN
part B pins: 5 +IN, 6 -IN, 7 OUT (out)
part C pins: 8 OUT (out), 9 -IN, 10 +IN
part D pins: 12 +IN, 13 -IN, 14 OUT (out)
part E pins: 4 V+ (power), 11 V- (power)

## LMV324?*MZ
designator IC?, comment Quad <b>General Purpose, Low Voltage, Rail-to-Rail Output Operational Amplifiers</b><p> / Source: http://www.national.com/mpf/LM/LMV321.html<br> / http://www.national.com/dt/lmv_qual.pdf
footprint TSSOP14
part A pins: 1 OUT (out), 2 -IN, 3 +IN
part B pins: 5 +IN, 6 -IN, 7 OUT (out)
part C pins: 8 OUT (out), 9 -IN, 10 +IN
part D pins: 12 +IN, 13 -IN, 14 OUT (out)
part E pins: 4 V+ (power), 11 V- (power)

## LMV358?*M
designator IC?, comment Dual <b>General Purpose, Low Voltage, Rail-to-Rail Output Operational Amplifiers</b><p> / Source: http://www.national.com/mpf/LM/LMV321.html<br> / http://www.national.com/dt/lmv_qual.pdf
footprint SO08
part A pins: 1 OUT (out), 2 -IN, 3 +IN
part B pins: 5 +IN, 6 -IN, 7 OUT (out)
part C pins: 4 V- (power), 8 V+ (power)

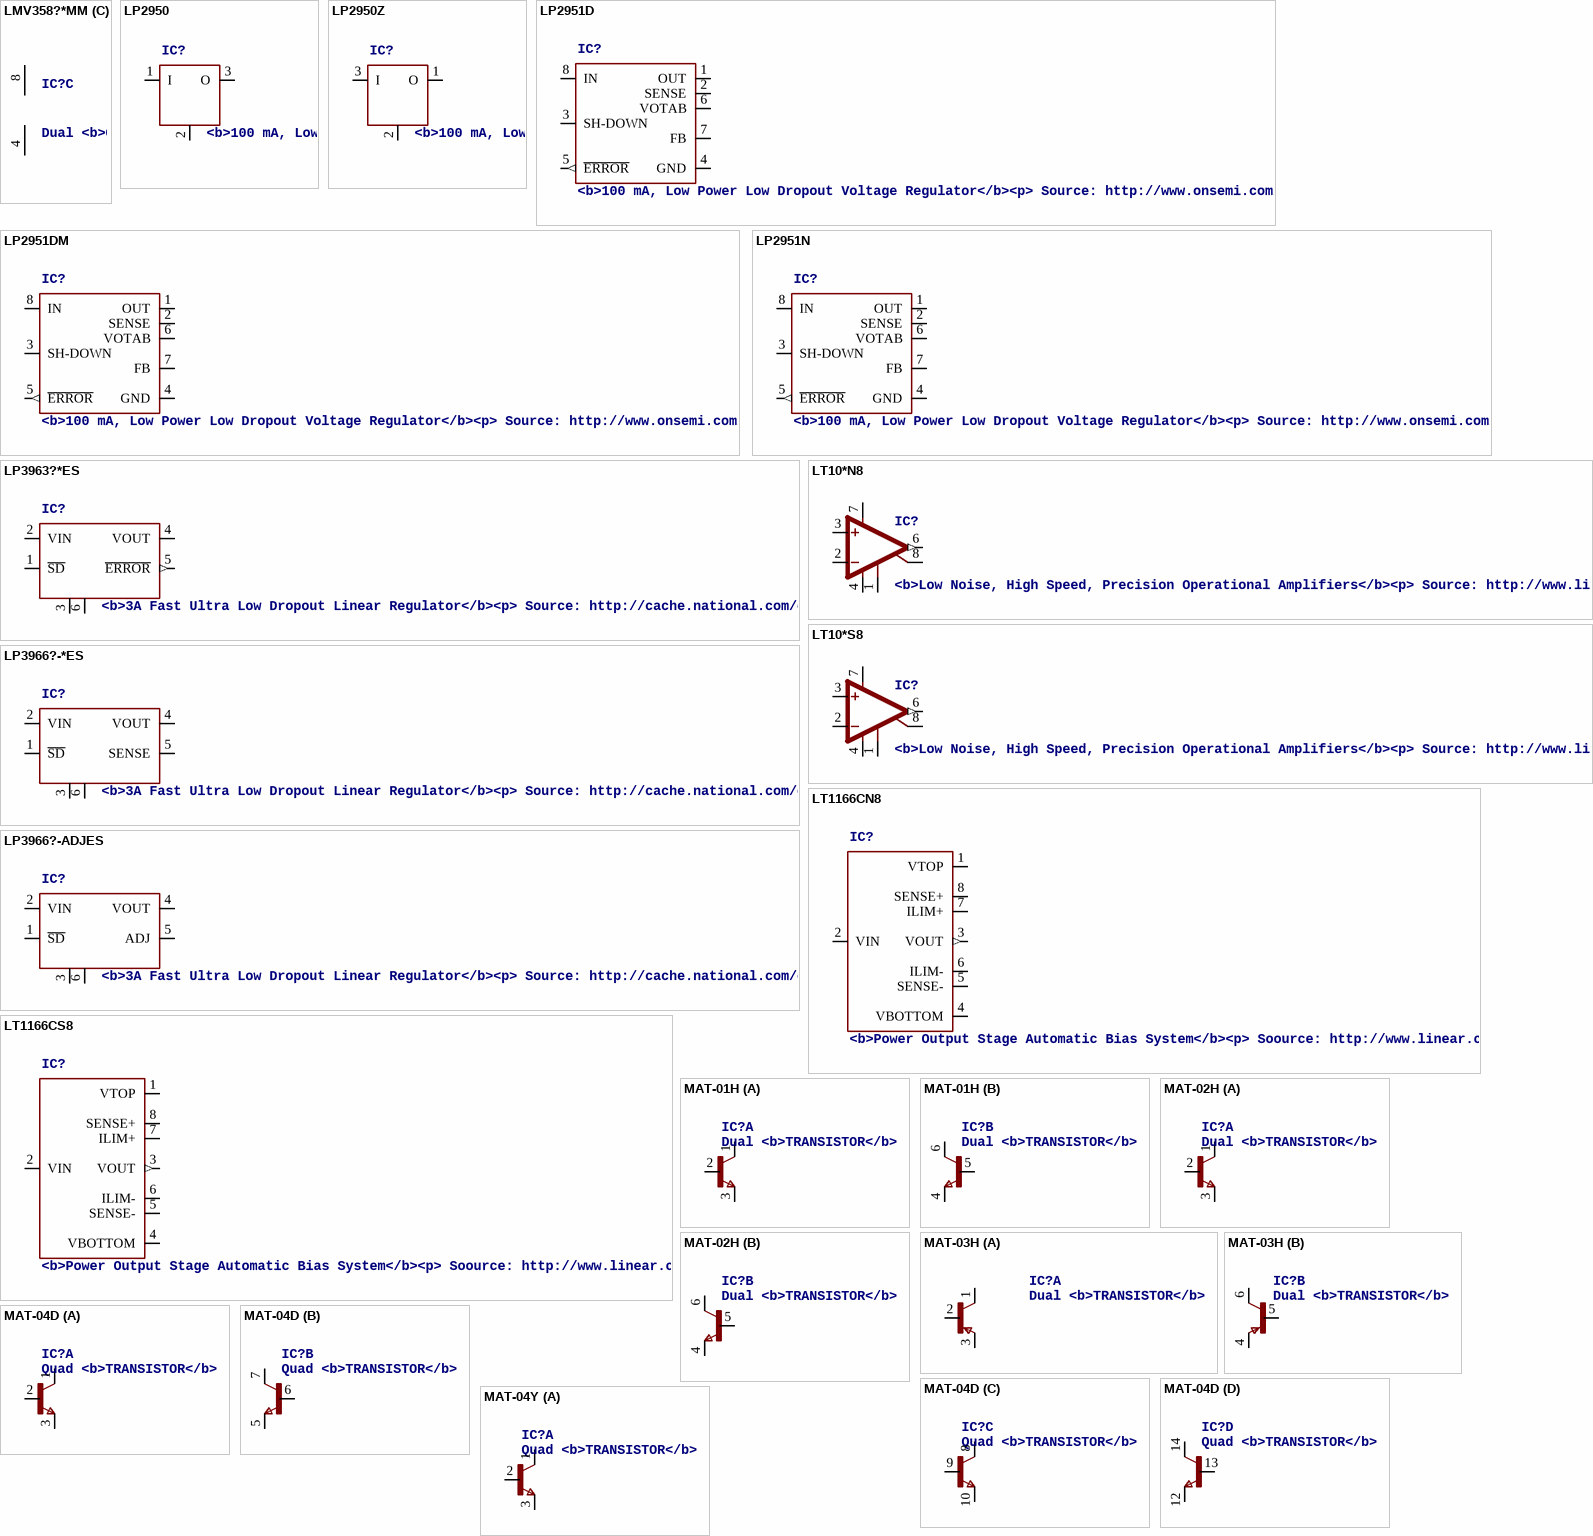
[diagram p20: symbols LMV358?*MM to MAT-04Y]

## LMV358?*MM
designator IC?, comment Dual <b>General Purpose, Low Voltage, Rail-to-Rail Output Operational Amplifiers</b><p> / Source: http://www.national.com/mpf/LM/LMV321.html<br> / http://www.national.com/dt/lmv_qual.pdf
footprint MSOP08
part A pins: 1 OUT (out), 2 -IN, 3 +IN
part B pins: 5 +IN, 6 -IN, 7 OUT (out)
part C pins: 4 V- (power), 8 V+ (power)

## LP2950
designator IC?, comment <b>100 mA, Low Power Low Dropout Voltage Regulator</b><p> / Source: http://www.onsemi.com/pub/Collateral/LP2950-D.PDF
footprint DPACK
pins: 1 I, 2 GND (power), 3 O

## LP2950Z
designator IC?, comment <b>100 mA, Low Power Low Dropout Voltage Regulator</b><p> / Source: http://www.onsemi.com/pub/Collateral/LP2950-D.PDF
footprint TO92
pins: 1 O, 2 GND (power), 3 I

## LP2951D
designator IC?, comment <b>100 mA, Low Power Low Dropout Voltage Regulator</b><p> / Source: http://www.onsemi.com/pub/Collateral/LP2950-D.PDF
footprint SO08
pins: 1 OUT, 2 SENSE, 3 SH-DOWN, 4 GND (power), 5 ~{ERROR} (out), 6 VOTAB, 7 FB, 8 IN

## LP2951DM
designator IC?, comment <b>100 mA, Low Power Low Dropout Voltage Regulator</b><p> / Source: http://www.onsemi.com/pub/Collateral/LP2950-D.PDF
footprint MICRO8
pins: 1 OUT, 2 SENSE, 3 SH-DOWN, 4 GND (power), 5 ~{ERROR} (out), 6 VOTAB, 7 FB, 8 IN

## LP2951N
designator IC?, comment <b>100 mA, Low Power Low Dropout Voltage Regulator</b><p> / Source: http://www.onsemi.com/pub/Collateral/LP2950-D.PDF
footprint DIL08
pins: 1 OUT, 2 SENSE, 3 SH-DOWN, 4 GND (power), 5 ~{ERROR} (out), 6 VOTAB, 7 FB, 8 IN

## LP3963?*ES
designator IC?, comment <b>3A Fast Ultra Low Dropout Linear Regulator</b><p> / Source: http://cache.national.com/ds/LP/LP3963.pdf
footprint TO263-5
pins: 1 ~{SD}, 2 VIN, 3 GND (power), 4 VOUT, 5 ~{ERROR} (out), 6 GND (power)

## LP3966?-*ES
designator IC?, comment <b>3A Fast Ultra Low Dropout Linear Regulator</b><p> / Source: http://cache.national.com/ds/LP/LP3963.pdf
footprint TO263-5
pins: 1 ~{SD}, 2 VIN, 3 GND (power), 4 VOUT, 5 SENSE, 6 GND (power)

## LP3966?-ADJES
designator IC?, comment <b>3A Fast Ultra Low Dropout Linear Regulator</b><p> / Source: http://cache.national.com/ds/LP/LP3963.pdf
footprint TO263-5
pins: 1 ~{SD}, 2 VIN, 3 GND (power), 4 VOUT, 5 ADJ, 6 GND (power)

## LT10*N8
designator IC?, comment <b>Low Noise, High Speed, Precision Operational Amplifiers</b><p> / Source: http://www.linear.com/pc/downloadDocument.do?navId=H0,C1,C1154,C1009,C1026,P1212,D2204
footprint DIL08
pins: 1 CMP1, 2 -IN, 3 +IN, 4 V- (power), 6 OUT (out), 7 V+ (power), 8 CMP2

## LT10*S8
designator IC?, comment <b>Low Noise, High Speed, Precision Operational Amplifiers</b><p> / Source: http://www.linear.com/pc/downloadDocument.do?navId=H0,C1,C1154,C1009,C1026,P1212,D2204
footprint SO08
pins: 1 CMP1, 2 -IN, 3 +IN, 4 V- (power), 6 OUT (out), 7 V+ (power), 8 CMP2

## LT1166CN8
designator IC?, comment <b>Power Output Stage Automatic Bias System</b><p> / Soource: http://www.linear.com
footprint DIL08
pins: 1 VTOP, 2 VIN, 3 VOUT (out), 4 VBOTTOM, 5 SENSE-, 6 ILIM-, 7 ILIM+, 8 SENSE+

## LT1166CS8
designator IC?, comment <b>Power Output Stage Automatic Bias System</b><p> / Soource: http://www.linear.com
footprint SO08
pins: 1 VTOP, 2 VIN, 3 VOUT (out), 4 VBOTTOM, 5 SENSE-, 6 ILIM-, 7 ILIM+, 8 SENSE+

## MAT-01H
designator IC?, comment Dual <b>TRANSISTOR</b>
footprint TO78
part A pins: 1 C, 2 B, 3 E
part B pins: 4 E, 5 B, 6 C

## MAT-02H
designator IC?, comment Dual <b>TRANSISTOR</b>
footprint TO78
part A pins: 1 C, 2 B, 3 E
part B pins: 4 E, 5 B, 6 C

## MAT-03H
designator IC?, comment Dual <b>TRANSISTOR</b>
footprint TO78
part A pins: 1 C, 2 B, 3 E
part B pins: 4 E, 5 B, 6 C

## MAT-04D
designator IC?, comment Quad <b>TRANSISTOR</b>
footprint SO14
part A pins: 1 C, 2 B, 3 E
part B pins: 5 E, 6 B, 7 C
part C pins: 8 C, 9 B, 10 E
part D pins: 12 E, 13 B, 14 C

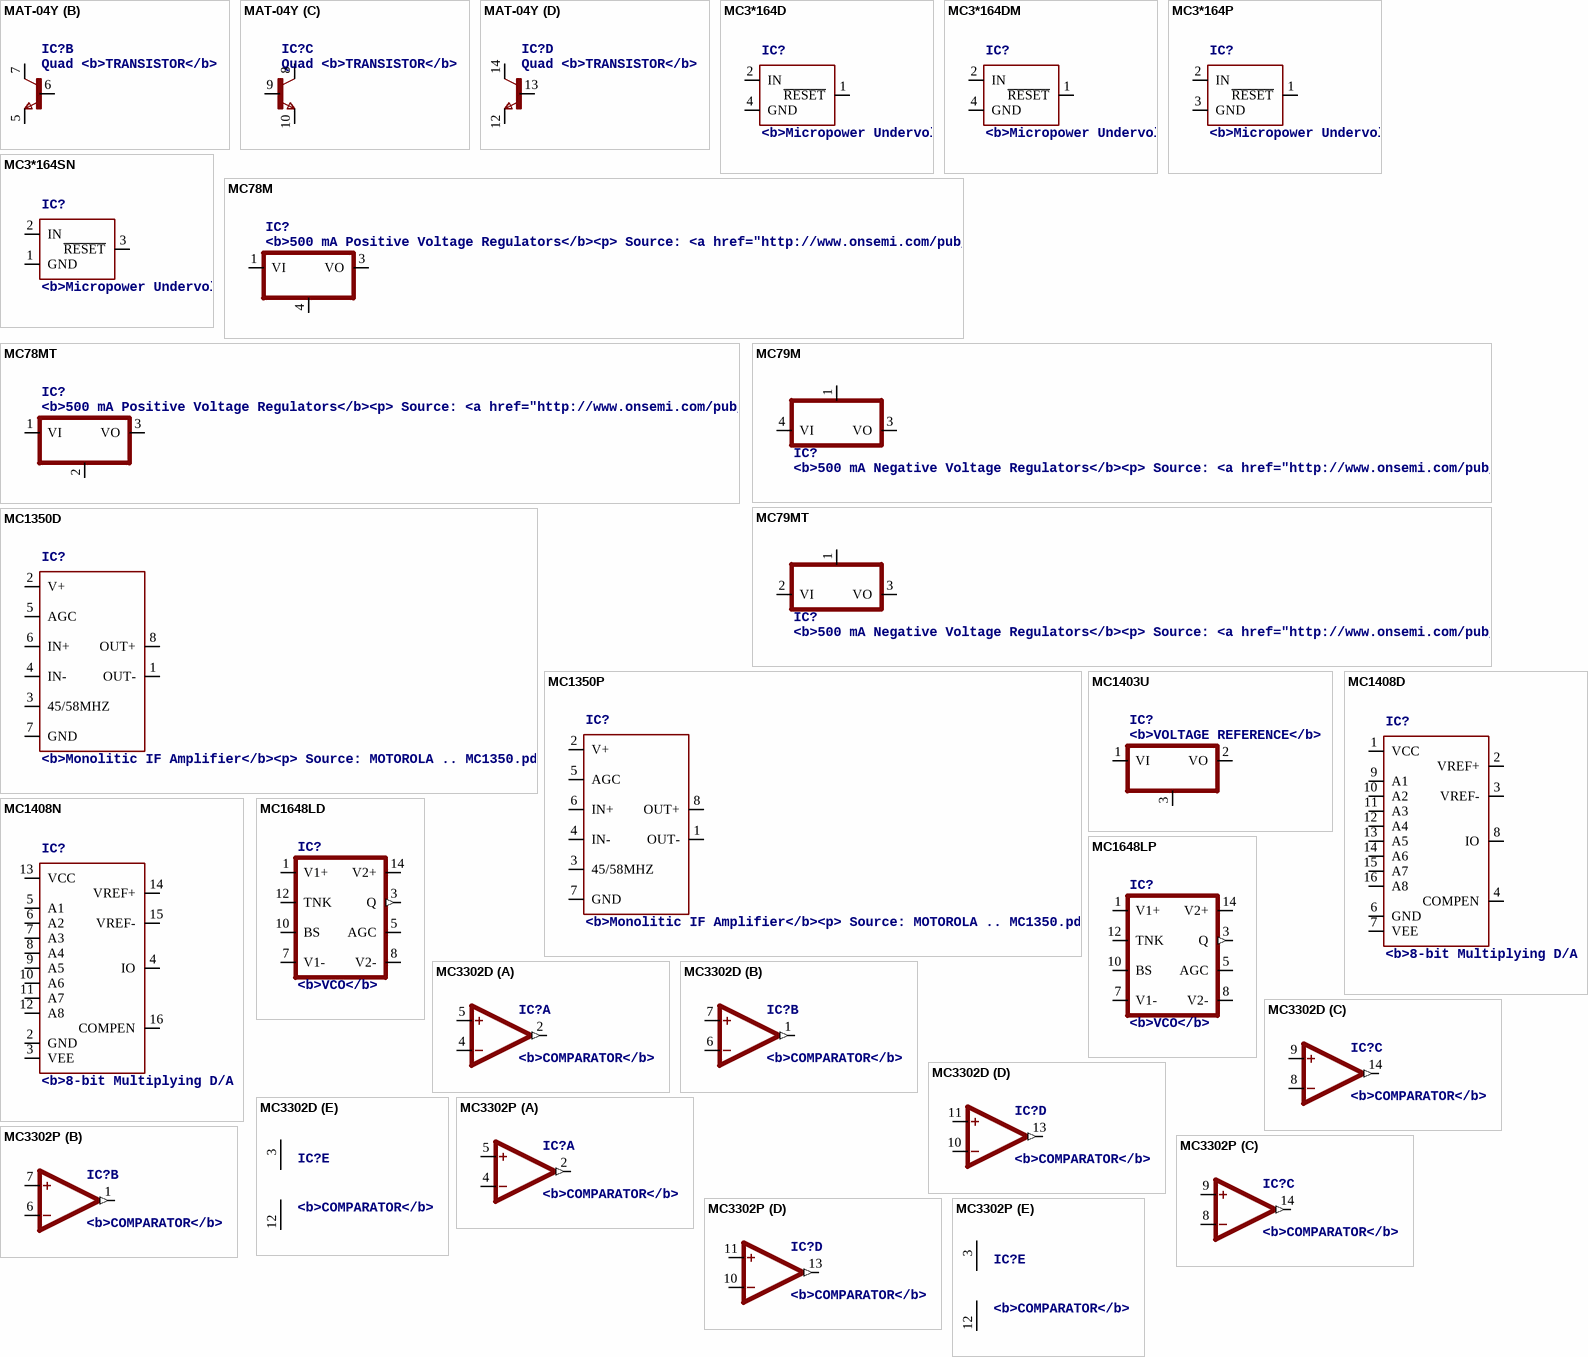
[diagram p21: symbols MAT-04Y to MC3302P]

## MAT-04Y
designator IC?, comment Quad <b>TRANSISTOR</b>
footprint DIL14
part A pins: 1 C, 2 B, 3 E
part B pins: 5 E, 6 B, 7 C
part C pins: 8 C, 9 B, 10 E
part D pins: 12 E, 13 B, 14 C

## MC3*164D
designator IC?, comment <b>Micropower Undervoltage Sensing Circuits</b><p> / Source: http://www.onsemi.com/pub/Collateral/MC34164-D.PDF
footprint SOIC8
pins: 1 ~{RESET} (oc), 2 IN, 4 GND (power)

## MC3*164DM
designator IC?, comment <b>Micropower Undervoltage Sensing Circuits</b><p> / Source: http://www.onsemi.com/pub/Collateral/MC34164-D.PDF
footprint MICRO8
pins: 1 ~{RESET} (oc), 2 IN, 4 GND (power)

## MC3*164P
designator IC?, comment <b>Micropower Undervoltage Sensing Circuits</b><p> / Source: http://www.onsemi.com/pub/Collateral/MC34164-D.PDF
footprint TO-226AA
pins: 1 ~{RESET} (oc), 2 IN, 3 GND (power)

## MC3*164SN
designator IC?, comment <b>Micropower Undervoltage Sensing Circuits</b><p> / Source: http://www.onsemi.com/pub/Collateral/MC34164-D.PDF
footprint TSOP-5
pins: 1 GND (power), 2 IN, 3 ~{RESET} (oc)

## MC78M
designator IC?, comment <b>500 mA Positive Voltage Regulators</b><p> / Source: <a href="http://www.onsemi.com/pub_link/Collateral/MC78M00-D.PDF">Data sheet</a>
footprint DPACK_3
pins: 1 VI, 3 VO, 4 GND

## MC78MT
designator IC?, comment <b>500 mA Positive Voltage Regulators</b><p> / Source: <a href="http://www.onsemi.com/pub_link/Collateral/MC78M00-D.PDF">Data sheet</a>
footprint TO220V
pins: 1 VI, 2 GND, 3 VO

## MC79M
designator IC?, comment <b>500 mA Negative Voltage Regulators</b><p> / Source: <a href="http://www.onsemi.com/pub_link/Collateral/MC79M00-D.PDF">Data sheet</a>
footprint DPACK_3
pins: 1 GND, 3 VO, 4 VI

## MC79MT
designator IC?, comment <b>500 mA Negative Voltage Regulators</b><p> / Source: <a href="http://www.onsemi.com/pub_link/Collateral/MC79M00-D.PDF">Data sheet</a>
footprint TO220V
pins: 1 GND, 2 VI, 3 VO

## MC1350D
designator IC?, comment <b>Monolitic IF Amplifier</b><p> / Source: MOTOROLA .. MC1350.pdf
footprint SO08
pins: 1 OUT-, 2 V+ (power), 3 45/58MHZ, 4 IN-, 5 AGC, 6 IN+, 7 GND (power), 8 OUT+

## MC1350P
designator IC?, comment <b>Monolitic IF Amplifier</b><p> / Source: MOTOROLA .. MC1350.pdf
footprint DIL08
pins: 1 OUT-, 2 V+ (power), 3 45/58MHZ, 4 IN-, 5 AGC, 6 IN+, 7 GND (power), 8 OUT+

## MC1403U
designator IC?, comment <b>VOLTAGE REFERENCE</b>
footprint DIL08
pins: 1 VI, 2 VO, 3 GND

## MC1408D
designator IC?, comment <b>8-bit Multiplying D/A Converter</b><p> / Source: http://www.onsemi.com/pub/Collateral/MC1408 DATASHEET.PDF
footprint SO16
pins: 1 VCC (power), 2 VREF+, 3 VREF-, 4 COMPEN, 6 GND (power), 7 VEE (power), 8 IO, 9 A1, 10 A2, 11 A3, 12 A4, 13 A5, 14 A6, 15 A7, 16 A8

## MC1408N
designator IC?, comment <b>8-bit Multiplying D/A Converter</b><p> / Source: http://www.onsemi.com/pub/Collateral/MC1408 DATASHEET.PDF
footprint DIL16
pins: 2 GND (power), 3 VEE (power), 4 IO, 5 A1, 6 A2, 7 A3, 8 A4, 9 A5, 10 A6, 11 A7, 12 A8, 13 VCC (power), 14 VREF+, 15 VREF-, 16 COMPEN

## MC1648LD
designator IC?, comment <b>VCO</b>
footprint SO14
pins: 1 V1+, 3 Q (out), 5 AGC, 7 V1-, 8 V2-, 10 BS, 12 TNK, 14 V2+

## MC1648LP
designator IC?, comment <b>VCO</b>
footprint DIL14
pins: 1 V1+, 3 Q (out), 5 AGC, 7 V1-, 8 V2-, 10 BS, 12 TNK, 14 V2+

## MC3302D
designator IC?, comment <b>COMPARATOR</b>
footprint SO14
part A pins: 2 OUT (out), 4 -IN, 5 +IN
part B pins: 1 OUT (out), 6 -IN, 7 +IN
part C pins: 8 -IN, 9 +IN, 14 OUT (out)
part D pins: 10 -IN, 11 +IN, 13 OUT (out)
part E pins: 3 V+ (power), 12 V- (power)

## MC3302P
designator IC?, comment <b>COMPARATOR</b>
footprint DIL14
part A pins: 2 OUT (out), 4 -IN, 5 +IN
part B pins: 1 OUT (out), 6 -IN, 7 +IN
part C pins: 8 -IN, 9 +IN, 14 OUT (out)
part D pins: 10 -IN, 11 +IN, 13 OUT (out)
part E pins: 3 V+ (power), 12 V- (power)

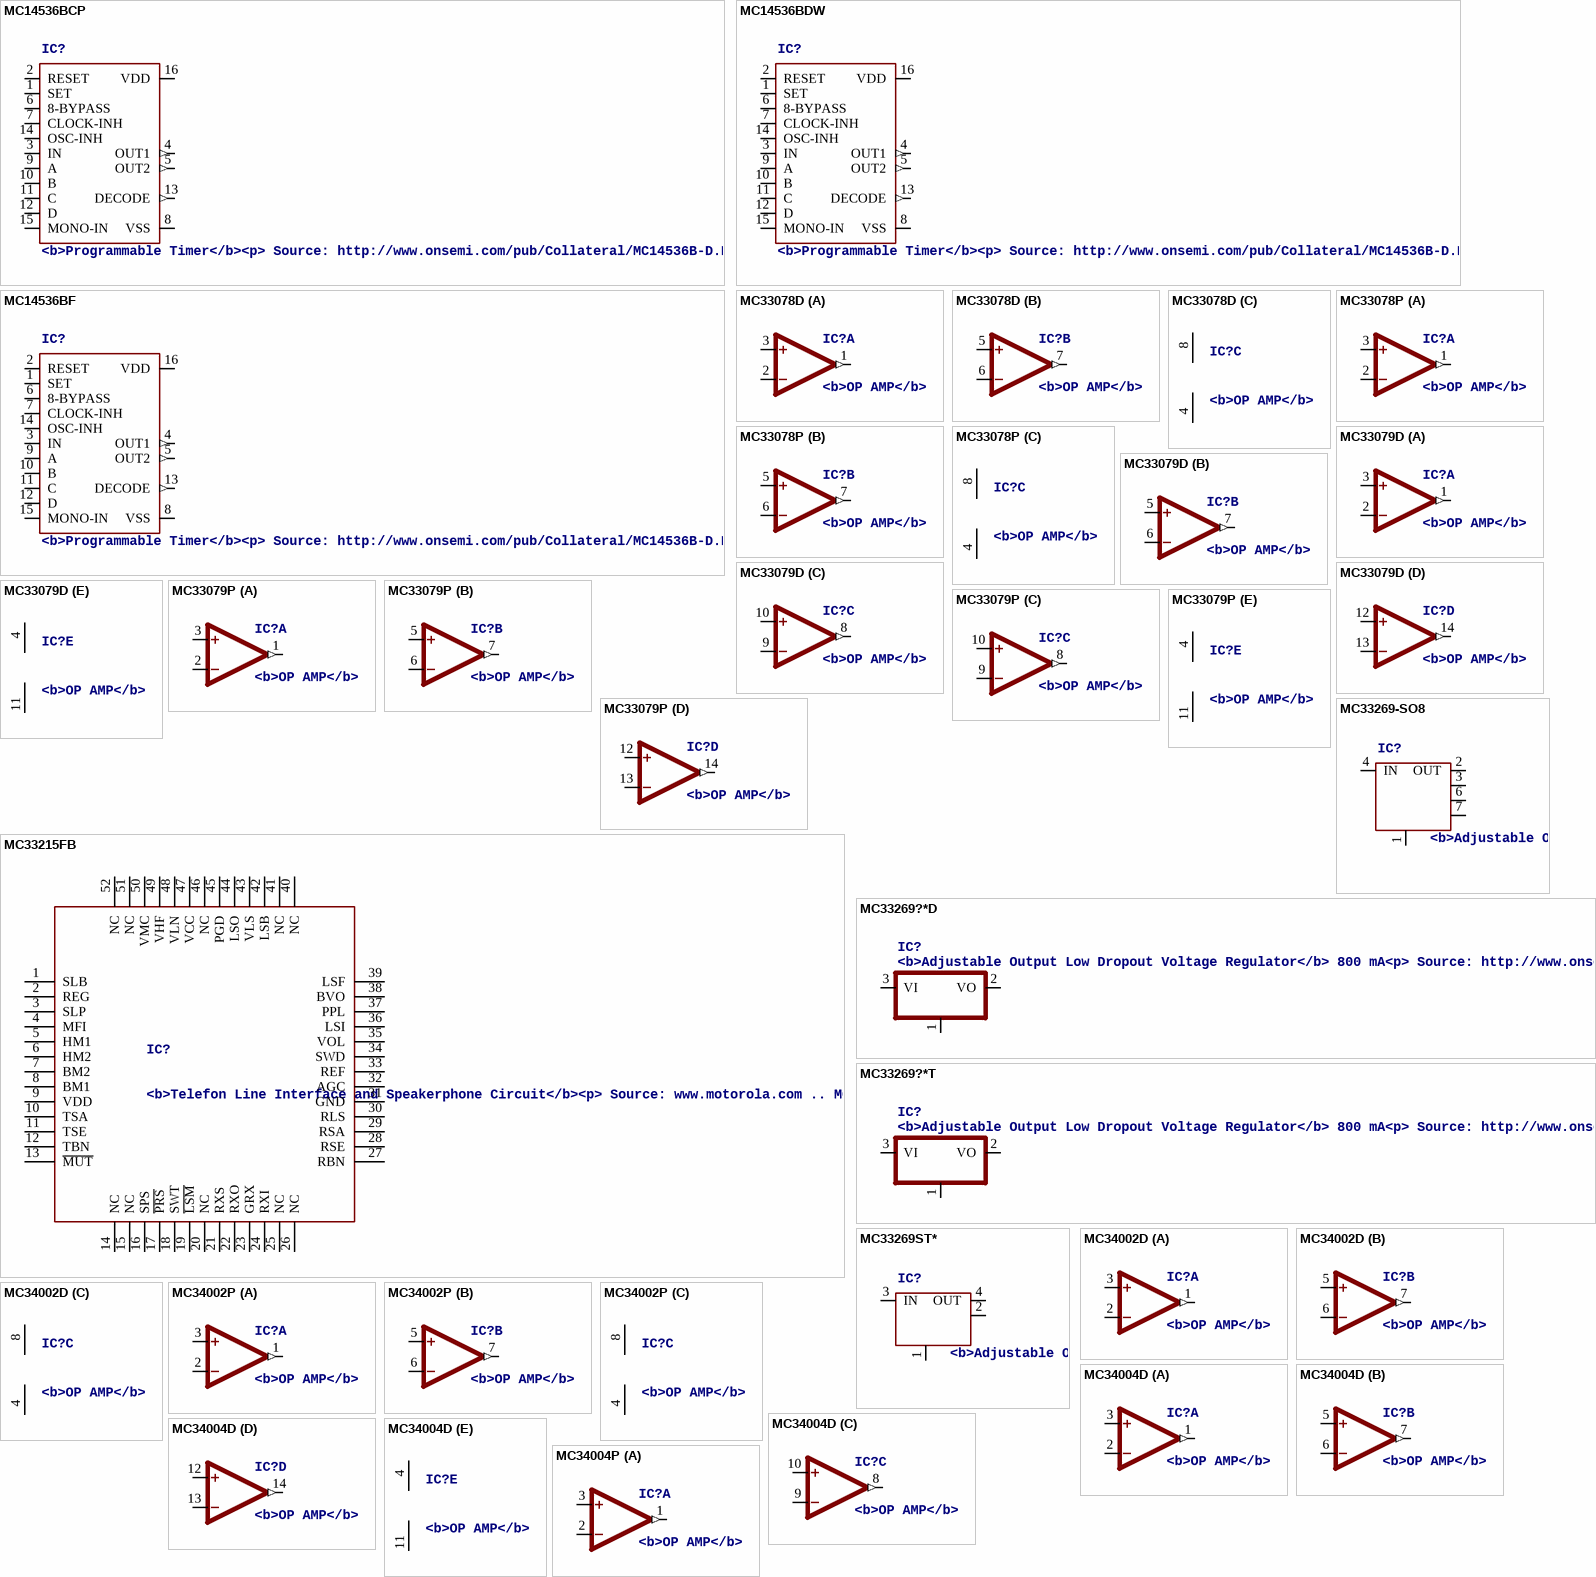
[diagram p22: symbols MC14536BCP to MC34004P]

## MC14536BCP
designator IC?, comment <b>Programmable Timer</b><p> / Source: http://www.onsemi.com/pub/Collateral/MC14536B-D.PDF
footprint DIL16
pins: 1 SET, 2 RESET, 3 IN, 4 OUT1 (out), 5 OUT2 (out), 6 8-BYPASS, 7 CLOCK-INH, 8 VSS (power), 9 A, 10 B, 11 C, 12 D, 13 DECODE (out), 14 OSC-INH, 15 MONO-IN, 16 VDD (power)

## MC14536BDW
designator IC?, comment <b>Programmable Timer</b><p> / Source: http://www.onsemi.com/pub/Collateral/MC14536B-D.PDF
footprint SO16DW
pins: 1 SET, 2 RESET, 3 IN, 4 OUT1 (out), 5 OUT2 (out), 6 8-BYPASS, 7 CLOCK-INH, 8 VSS (power), 9 A, 10 B, 11 C, 12 D, 13 DECODE (out), 14 OSC-INH, 15 MONO-IN, 16 VDD (power)

## MC14536BF
designator IC?, comment <b>Programmable Timer</b><p> / Source: http://www.onsemi.com/pub/Collateral/MC14536B-D.PDF
footprint SO16-F
pins: 1 SET, 2 RESET, 3 IN, 4 OUT1 (out), 5 OUT2 (out), 6 8-BYPASS, 7 CLOCK-INH, 8 VSS (power), 9 A, 10 B, 11 C, 12 D, 13 DECODE (out), 14 OSC-INH, 15 MONO-IN, 16 VDD (power)

## MC33078D
designator IC?, comment <b>OP AMP</b>
footprint SO08
part A pins: 1 OUT (out), 2 -IN, 3 +IN
part B pins: 5 +IN, 6 -IN, 7 OUT (out)
part C pins: 4 V- (power), 8 V+ (power)

## MC33078P
designator IC?, comment <b>OP AMP</b>
footprint DIL08
part A pins: 1 OUT (out), 2 -IN, 3 +IN
part B pins: 5 +IN, 6 -IN, 7 OUT (out)
part C pins: 4 V- (power), 8 V+ (power)

## MC33079D
designator IC?, comment <b>OP AMP</b>
footprint SO14
part A pins: 1 OUT (out), 2 -IN, 3 +IN
part B pins: 5 +IN, 6 -IN, 7 OUT (out)
part C pins: 8 OUT (out), 9 -IN, 10 +IN
part D pins: 12 +IN, 13 -IN, 14 OUT (out)
part E pins: 4 V+ (power), 11 V- (power)

## MC33079P
designator IC?, comment <b>OP AMP</b>
footprint DIL14
part A pins: 1 OUT (out), 2 -IN, 3 +IN
part B pins: 5 +IN, 6 -IN, 7 OUT (out)
part C pins: 8 OUT (out), 9 -IN, 10 +IN
part D pins: 12 +IN, 13 -IN, 14 OUT (out)
part E pins: 4 V+ (power), 11 V- (power)

## MC33215FB
designator IC?, comment <b>Telefon Line Interface and Speakerphone Circuit</b><p> / Source: www.motorola.com .. MC33215.pdf
footprint TQFP52
pins: 1 SLB, 2 REG, 3 SLP, 4 MFI, 5 HM1, 6 HM2, 7 BM2, 8 BM1, 9 VDD, 10 TSA, 11 TSE, 12 TBN, 13 ~{MUT}, 14 NC, 15 NC, 16 SPS, 17 ~{PRS}, 18 SWT, 19 ~{LSM}, 20 NC, 21 RXS, 22 RXO, 23 GRX, 24 RXI, 25 NC, 26 NC, 27 RBN, 28 RSE, 29 RSA, 30 RLS, 31 GND, 32 AGC, 33 REF, 34 SWD, 35 VOL, 36 LSI, 37 PPL, 38 BVO, 39 LSF, 40 NC, 41 NC, 42 LSB, 43 VLS, 44 LSO, 45 PGD, 46 NC, 47 VCC, 48 VLN, 49 VHF, 50 VMC, 51 NC, 52 NC

## MC33269-SO8
designator IC?, comment <b>Adjustable Output Low Dropout Voltage Regulator</b> 800 mA<p> / Source: http://www.onsemi.com/pub/Collateral/MC33269-D.PDF
footprint SO08
pins: 1 GND/ADJ, 2 OUT, 3 OUT, 4 IN, 6 OUT, 7 OUT

## MC33269?*D
designator IC?, comment <b>Adjustable Output Low Dropout Voltage Regulator</b> 800 mA<p> / Source: http://www.onsemi.com/pub/Collateral/MC33269-D.PDF
footprint DPACK
pins: 1 ADJ, 2 VO, 3 VI

## MC33269?*T
designator IC?, comment <b>Adjustable Output Low Dropout Voltage Regulator</b> 800 mA<p> / Source: http://www.onsemi.com/pub/Collateral/MC33269-D.PDF
footprint TO220V
pins: 1 ADJ, 2 VO, 3 VI

## MC33269ST*
designator IC?, comment <b>Adjustable Output Low Dropout Voltage Regulator</b> 800 mA<p> / Source: http://www.onsemi.com/pub/Collateral/MC33269-D.PDF
footprint SOT223
pins: 1 GND/ADJ, 2 OUT, 3 IN, 4 OUT

## MC34002D
designator IC?, comment <b>OP AMP</b>
footprint SO08
part A pins: 1 OUT (out), 2 -IN, 3 +IN
part B pins: 5 +IN, 6 -IN, 7 OUT (out)
part C pins: 4 V- (power), 8 V+ (power)

## MC34002P
designator IC?, comment <b>OP AMP</b>
footprint DIL08
part A pins: 1 OUT (out), 2 -IN, 3 +IN
part B pins: 5 +IN, 6 -IN, 7 OUT (out)
part C pins: 4 V- (power), 8 V+ (power)

## MC34004D
designator IC?, comment <b>OP AMP</b>
footprint SO14
part A pins: 1 OUT (out), 2 -IN, 3 +IN
part B pins: 5 +IN, 6 -IN, 7 OUT (out)
part C pins: 8 OUT (out), 9 -IN, 10 +IN
part D pins: 12 +IN, 13 -IN, 14 OUT (out)
part E pins: 4 V+ (power), 11 V- (power)

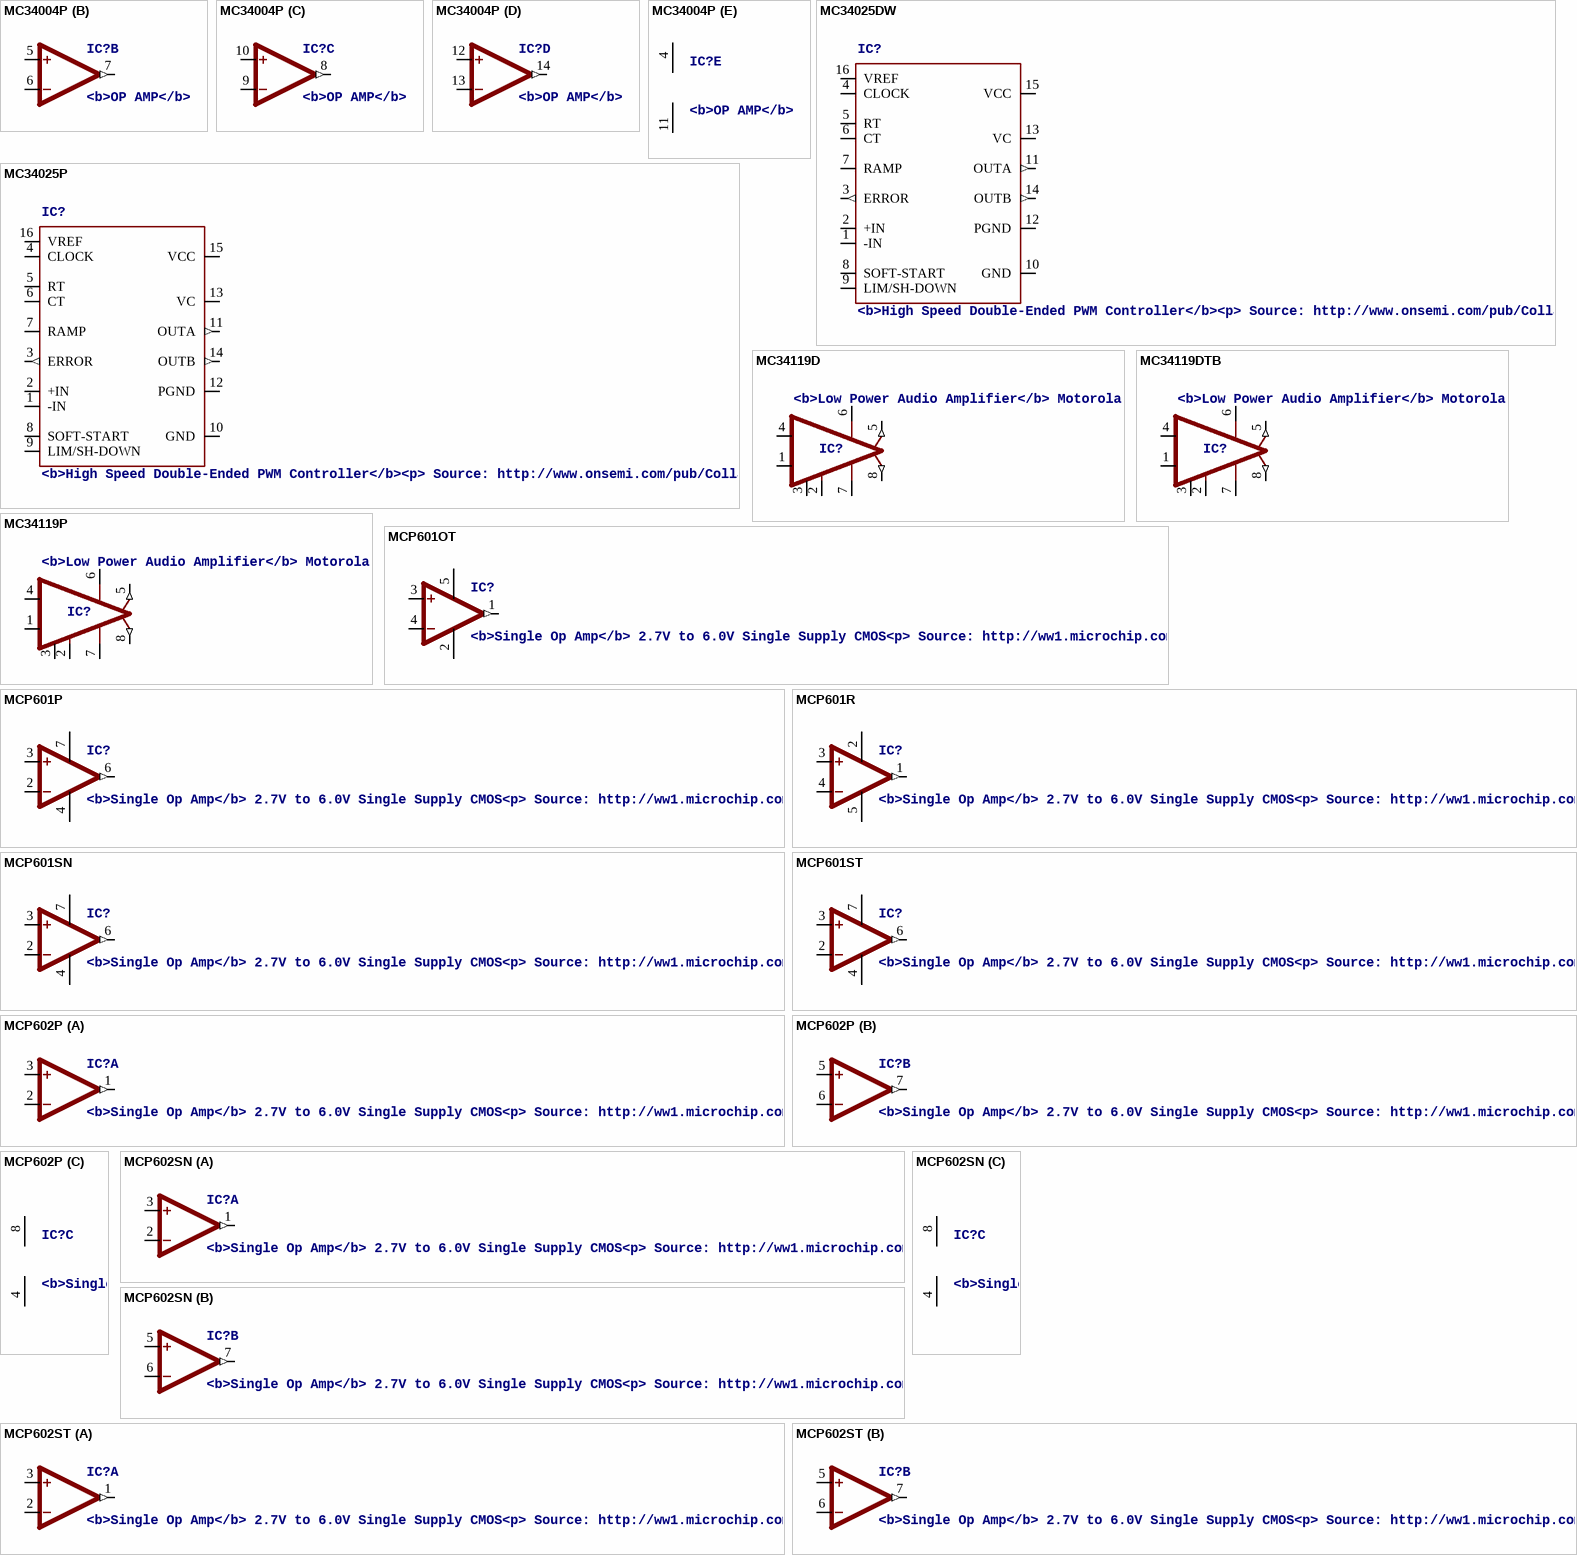
[diagram p23: symbols MC34004P to MCP602ST]

## MC34004P
designator IC?, comment <b>OP AMP</b>
footprint DIL14
part A pins: 1 OUT (out), 2 -IN, 3 +IN
part B pins: 5 +IN, 6 -IN, 7 OUT (out)
part C pins: 8 OUT (out), 9 -IN, 10 +IN
part D pins: 12 +IN, 13 -IN, 14 OUT (out)
part E pins: 4 V+ (power), 11 V- (power)

## MC34025DW
designator IC?, comment <b>High Speed Double-Ended PWM Controller</b><p> / Source: http://www.onsemi.com/pub/Collateral/MC34025-D.PDF
footprint SO16W
pins: 1 -IN, 2 +IN, 3 ERROR (out), 4 CLOCK, 5 RT, 6 CT, 7 RAMP, 8 SOFT-START, 9 LIM/SH-DOWN, 10 GND (power), 11 OUTA (out), 12 PGND (power), 13 VC (power), 14 OUTB (out), 15 VCC (power), 16 VREF

## MC34025P
designator IC?, comment <b>High Speed Double-Ended PWM Controller</b><p> / Source: http://www.onsemi.com/pub/Collateral/MC34025-D.PDF
footprint DIL16
pins: 1 -IN, 2 +IN, 3 ERROR (out), 4 CLOCK, 5 RT, 6 CT, 7 RAMP, 8 SOFT-START, 9 LIM/SH-DOWN, 10 GND (power), 11 OUTA (out), 12 PGND (power), 13 VC (power), 14 OUTB (out), 15 VCC (power), 16 VREF

## MC34119D
designator IC?, comment <b>Low Power Audio Amplifier</b> Motorola
footprint SO08
pins: 1 CD, 2 FC2, 3 FC1, 4 IN, 5 VO1 (out), 6 VCC (power), 7 GND (power), 8 VO2 (out)

## MC34119DTB
designator IC?, comment <b>Low Power Audio Amplifier</b> Motorola
footprint TSSOP8
pins: 1 CD, 2 FC2, 3 FC1, 4 IN, 5 VO1 (out), 6 VCC (power), 7 GND (power), 8 VO2 (out)

## MC34119P
designator IC?, comment <b>Low Power Audio Amplifier</b> Motorola
footprint DIL08
pins: 1 CD, 2 FC2, 3 FC1, 4 IN, 5 VO1 (out), 6 VCC (power), 7 GND (power), 8 VO2 (out)

## MCP601OT
designator IC?, comment <b>Single Op Amp</b> 2.7V to 6.0V Single Supply CMOS<p> / Source: http://ww1.microchip.com/downloads/en/DeviceDoc/21314g.pdf
footprint SOT23-5
pins: 1 OUT (out), 2 V- (power), 3 +IN, 4 -IN, 5 V+ (power)

## MCP601P
designator IC?, comment <b>Single Op Amp</b> 2.7V to 6.0V Single Supply CMOS<p> / Source: http://ww1.microchip.com/downloads/en/DeviceDoc/21314g.pdf
footprint DIL08
pins: 2 -IN, 3 +IN, 4 V- (power), 6 OUT (out), 7 V+ (power)

## MCP601R
designator IC?, comment <b>Single Op Amp</b> 2.7V to 6.0V Single Supply CMOS<p> / Source: http://ww1.microchip.com/downloads/en/DeviceDoc/21314g.pdf
footprint SOT23-5
pins: 1 OUT (out), 2 V+ (power), 3 +IN, 4 -IN, 5 V- (power)

## MCP601SN
designator IC?, comment <b>Single Op Amp</b> 2.7V to 6.0V Single Supply CMOS<p> / Source: http://ww1.microchip.com/downloads/en/DeviceDoc/21314g.pdf
footprint SO08
pins: 2 -IN, 3 +IN, 4 V- (power), 6 OUT (out), 7 V+ (power)

## MCP601ST
designator IC?, comment <b>Single Op Amp</b> 2.7V to 6.0V Single Supply CMOS<p> / Source: http://ww1.microchip.com/downloads/en/DeviceDoc/21314g.pdf
footprint TSSOP8
pins: 2 -IN, 3 +IN, 4 V- (power), 6 OUT (out), 7 V+ (power)

## MCP602P
designator IC?, comment <b>Single Op Amp</b> 2.7V to 6.0V Single Supply CMOS<p> / Source: http://ww1.microchip.com/downloads/en/DeviceDoc/21314g.pdf
footprint DIL08
part A pins: 1 OUT (out), 2 -IN, 3 +IN
part B pins: 5 +IN, 6 -IN, 7 OUT (out)
part C pins: 4 V- (power), 8 V+ (power)

## MCP602SN
designator IC?, comment <b>Single Op Amp</b> 2.7V to 6.0V Single Supply CMOS<p> / Source: http://ww1.microchip.com/downloads/en/DeviceDoc/21314g.pdf
footprint SO08
part A pins: 1 OUT (out), 2 -IN, 3 +IN
part B pins: 5 +IN, 6 -IN, 7 OUT (out)
part C pins: 4 V- (power), 8 V+ (power)

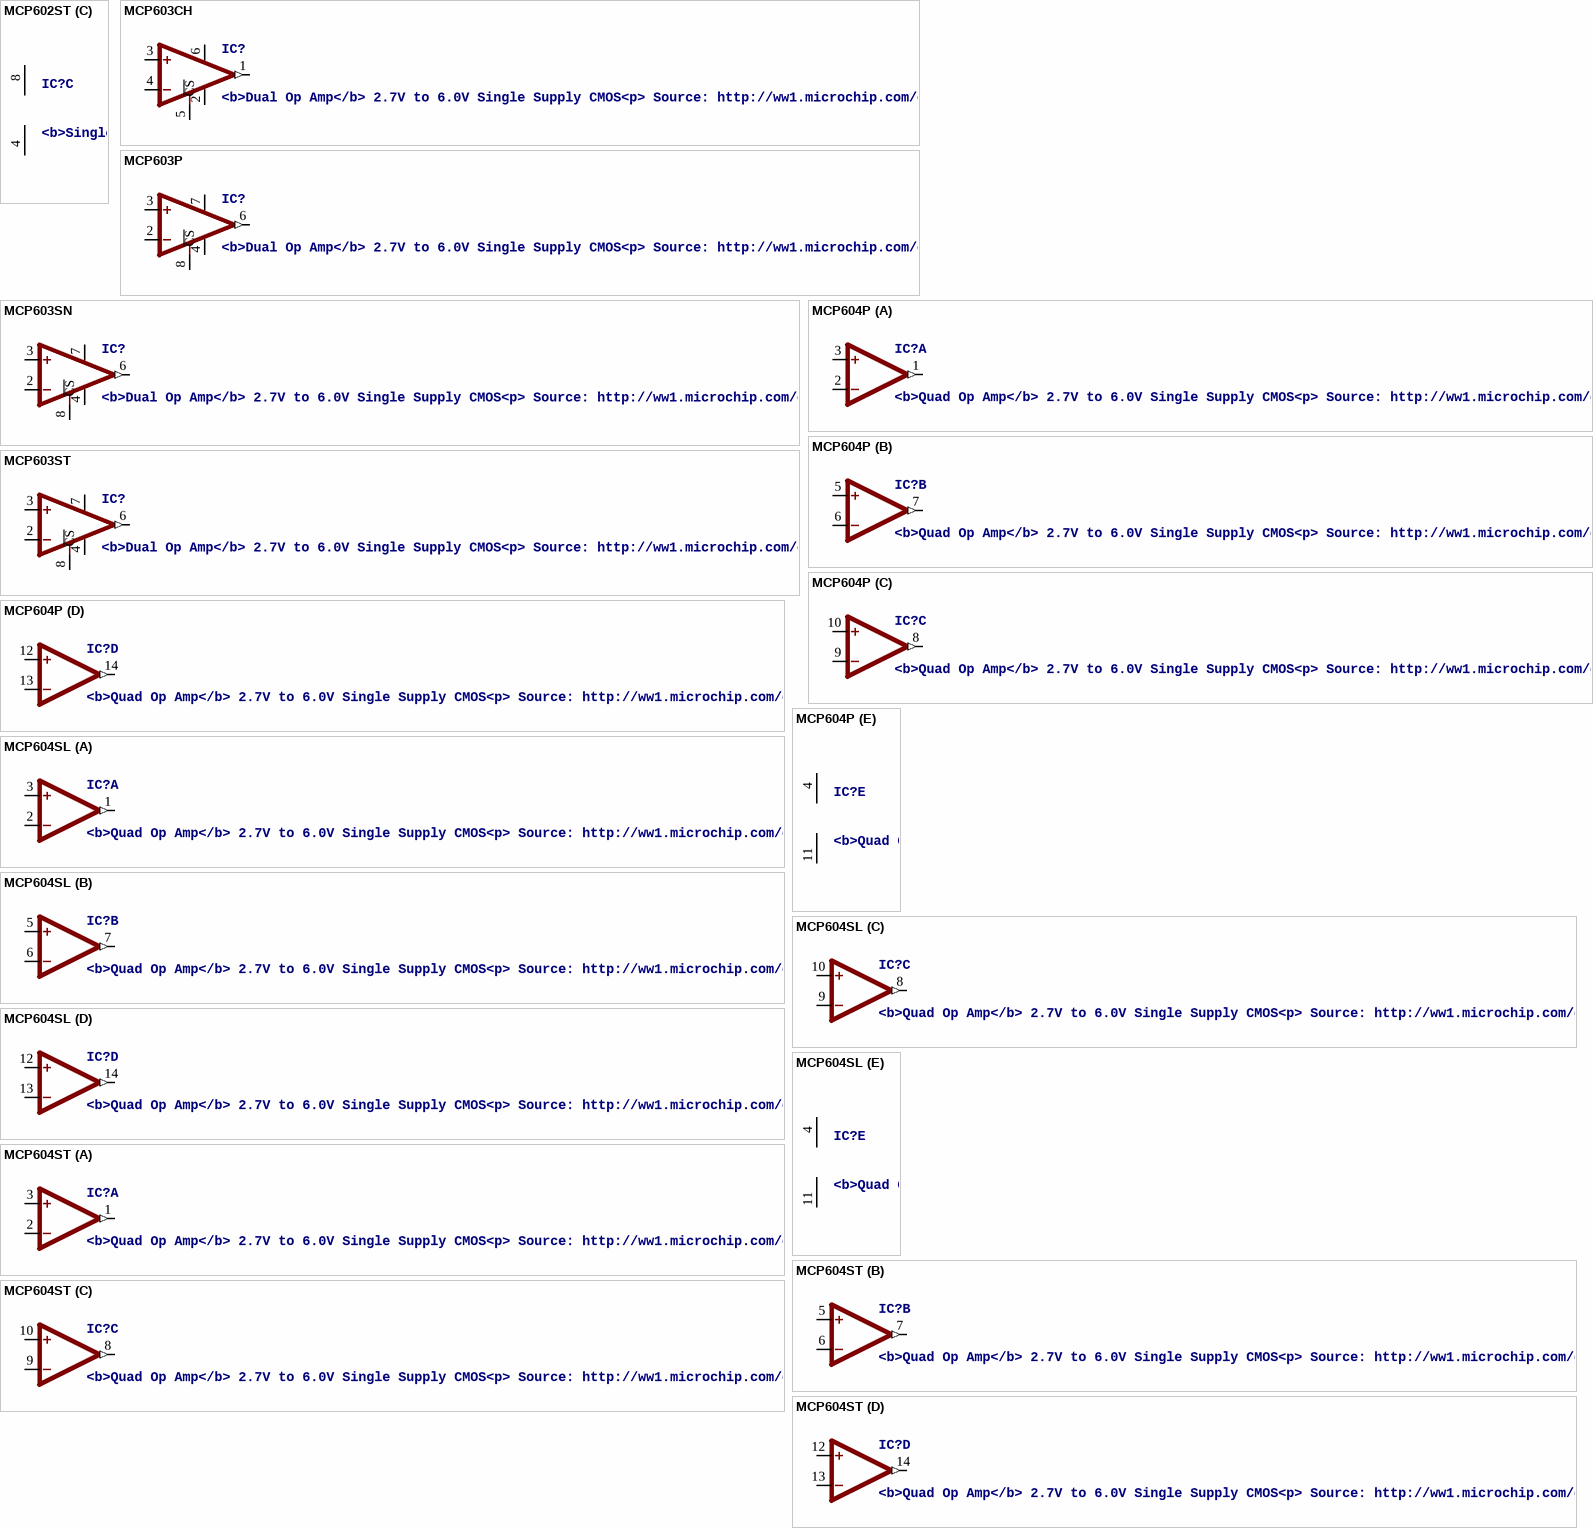
[diagram p24: symbols MCP602ST to MCP604ST]

## MCP602ST
designator IC?, comment <b>Single Op Amp</b> 2.7V to 6.0V Single Supply CMOS<p> / Source: http://ww1.microchip.com/downloads/en/DeviceDoc/21314g.pdf
footprint TSSOP8
part A pins: 1 OUT (out), 2 -IN, 3 +IN
part B pins: 5 +IN, 6 -IN, 7 OUT (out)
part C pins: 4 V- (power), 8 V+ (power)

## MCP603CH
designator IC?, comment <b>Dual Op Amp</b> 2.7V to 6.0V Single Supply CMOS<p> / Source: http://ww1.microchip.com/downloads/en/DeviceDoc/21314g.pdf
footprint SOT23-6
pins: 1 OUT (out), 2 V- (power), 3 +IN, 4 -IN, 5 ~{CS}, 6 V+ (power)

## MCP603P
designator IC?, comment <b>Dual Op Amp</b> 2.7V to 6.0V Single Supply CMOS<p> / Source: http://ww1.microchip.com/downloads/en/DeviceDoc/21314g.pdf
footprint DIL08
pins: 2 -IN, 3 +IN, 4 V- (power), 6 OUT (out), 7 V+ (power), 8 ~{CS}

## MCP603SN
designator IC?, comment <b>Dual Op Amp</b> 2.7V to 6.0V Single Supply CMOS<p> / Source: http://ww1.microchip.com/downloads/en/DeviceDoc/21314g.pdf
footprint SO08
pins: 2 -IN, 3 +IN, 4 V- (power), 6 OUT (out), 7 V+ (power), 8 ~{CS}

## MCP603ST
designator IC?, comment <b>Dual Op Amp</b> 2.7V to 6.0V Single Supply CMOS<p> / Source: http://ww1.microchip.com/downloads/en/DeviceDoc/21314g.pdf
footprint TSSOP8
pins: 2 -IN, 3 +IN, 4 V- (power), 6 OUT (out), 7 V+ (power), 8 ~{CS}

## MCP604P
designator IC?, comment <b>Quad Op Amp</b> 2.7V to 6.0V Single Supply CMOS<p> / Source: http://ww1.microchip.com/downloads/en/DeviceDoc/21314g.pdf
footprint DIL14
part A pins: 1 OUT (out), 2 -IN, 3 +IN
part B pins: 5 +IN, 6 -IN, 7 OUT (out)
part C pins: 8 OUT (out), 9 -IN, 10 +IN
part D pins: 12 +IN, 13 -IN, 14 OUT (out)
part E pins: 4 V+ (power), 11 V- (power)

## MCP604SL
designator IC?, comment <b>Quad Op Amp</b> 2.7V to 6.0V Single Supply CMOS<p> / Source: http://ww1.microchip.com/downloads/en/DeviceDoc/21314g.pdf
footprint SO14
part A pins: 1 OUT (out), 2 -IN, 3 +IN
part B pins: 5 +IN, 6 -IN, 7 OUT (out)
part C pins: 8 OUT (out), 9 -IN, 10 +IN
part D pins: 12 +IN, 13 -IN, 14 OUT (out)
part E pins: 4 V+ (power), 11 V- (power)

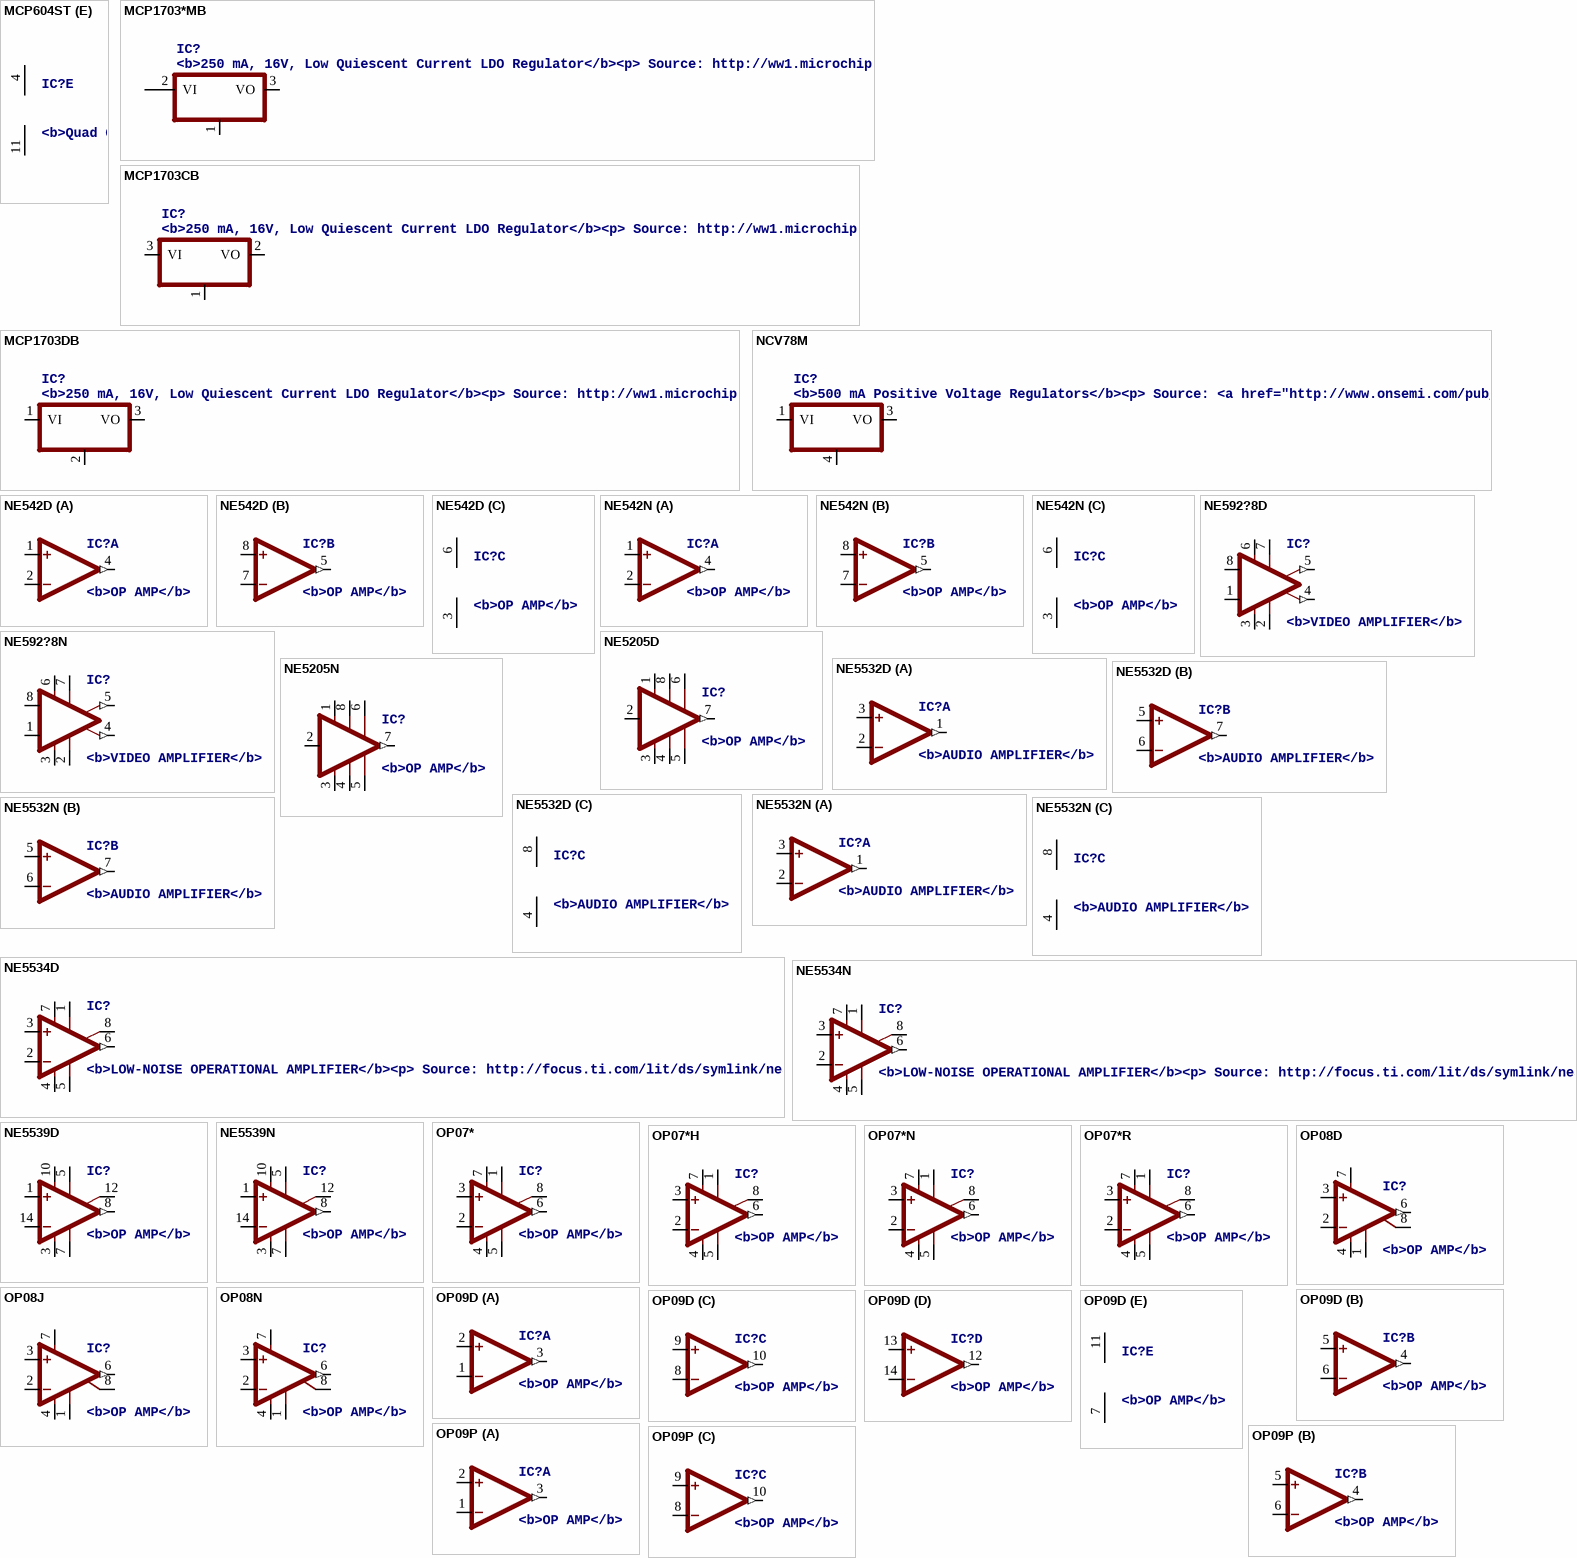
[diagram p25: symbols MCP604ST to OP09P]

## MCP604ST
designator IC?, comment <b>Quad Op Amp</b> 2.7V to 6.0V Single Supply CMOS<p> / Source: http://ww1.microchip.com/downloads/en/DeviceDoc/21314g.pdf
footprint TSSOP14
part A pins: 1 OUT (out), 2 -IN, 3 +IN
part B pins: 5 +IN, 6 -IN, 7 OUT (out)
part C pins: 8 OUT (out), 9 -IN, 10 +IN
part D pins: 12 +IN, 13 -IN, 14 OUT (out)
part E pins: 4 V+ (power), 11 V- (power)

## MCP1703*MB
designator IC?, comment <b>250 mA, 16V, Low Quiescent Current LDO Regulator</b><p> / Source: http://ww1.microchip.com/downloads/en/DeviceDoc/22049b.pdf
footprint SOT89
pins: 1 GND, 2 VI, 2@1 VI1, 3 VO

## MCP1703CB
designator IC?, comment <b>250 mA, 16V, Low Quiescent Current LDO Regulator</b><p> / Source: http://ww1.microchip.com/downloads/en/DeviceDoc/22049b.pdf
footprint SOT23
pins: 1 GND, 2 VO, 3 VI

## MCP1703DB
designator IC?, comment <b>250 mA, 16V, Low Quiescent Current LDO Regulator</b><p> / Source: http://ww1.microchip.com/downloads/en/DeviceDoc/22049b.pdf
footprint SOT223
pins: 1 VI, 2 GND, 3 VO

## NCV78M
designator IC?, comment <b>500 mA Positive Voltage Regulators</b><p> / Source: <a href="http://www.onsemi.com/pub_link/Collateral/MC78M00-D.PDF">Data sheet</a>
footprint DPACK_3
pins: 1 VI, 3 VO, 4 GND

## NE542D
designator IC?, comment <b>OP AMP</b>
footprint SO08
part A pins: 1 +IN, 2 -IN, 4 OUT (out)
part B pins: 5 OUT (out), 7 -IN, 8 +IN
part C pins: 3 GND (power), 6 V+ (power)

## NE542N
designator IC?, comment <b>OP AMP</b>
footprint DIL08
part A pins: 1 +IN, 2 -IN, 4 OUT (out)
part B pins: 5 OUT (out), 7 -IN, 8 +IN
part C pins: 3 GND (power), 6 V+ (power)

## NE592?8D
designator IC?, comment <b>VIDEO AMPLIFIER</b>
footprint SO08
pins: 1 IN2, 2 G1B, 3 V- (power), 4 OUT2 (out), 5 OUT1 (out), 6 V+ (power), 7 G1A, 8 IN1

## NE592?8N
designator IC?, comment <b>VIDEO AMPLIFIER</b>
footprint DIL08
pins: 1 IN2, 2 G1B, 3 V- (power), 4 OUT2 (out), 5 OUT1 (out), 6 V+ (power), 7 G1A, 8 IN1

## NE5205D
designator IC?, comment <b>OP AMP</b>
footprint SO08
pins: 1 VCC, 2 IN, 3 GND, 4 GND, 5 GND, 6 GND, 7 OUT (out), 8 VCC

## NE5205N
designator IC?, comment <b>OP AMP</b>
footprint DIL08
pins: 1 VCC, 2 IN, 3 GND, 4 GND, 5 GND, 6 GND, 7 OUT (out), 8 VCC

## NE5532D
designator IC?, comment <b>AUDIO AMPLIFIER</b>
footprint SO08
part A pins: 1 OUT (out), 2 -IN, 3 +IN
part B pins: 5 +IN, 6 -IN, 7 OUT (out)
part C pins: 4 V- (power), 8 V+ (power)

## NE5532N
designator IC?, comment <b>AUDIO AMPLIFIER</b>
footprint DIL08
part A pins: 1 OUT (out), 2 -IN, 3 +IN
part B pins: 5 +IN, 6 -IN, 7 OUT (out)
part C pins: 4 V- (power), 8 V+ (power)

## NE5534D
designator IC?, comment <b>LOW-NOISE OPERATIONAL AMPLIFIER</b><p> / Source: http://focus.ti.com/lit/ds/symlink/ne5534.pdf
footprint SO08
pins: 1 ON, 2 -IN, 3 +IN, 4 V- (power), 5 CMP, 6 OUT (out), 7 V+ (power), 8 ON/CMP

## NE5534N
designator IC?, comment <b>LOW-NOISE OPERATIONAL AMPLIFIER</b><p> / Source: http://focus.ti.com/lit/ds/symlink/ne5534.pdf
footprint DIL08
pins: 1 ON, 2 -IN, 3 +IN, 4 V- (power), 5 CMP, 6 OUT (out), 7 V+ (power), 8 ON/CMP

## NE5539D
designator IC?, comment <b>OP AMP</b>
footprint SO14
pins: 1 +IN, 3 V- (power), 5 ON/AV, 7 GND, 8 OUT (out), 10 V+ (power), 12 CMP, 14 -IN

## NE5539N
designator IC?, comment <b>OP AMP</b>
footprint DIL14
pins: 1 +IN, 3 V- (power), 5 ON/AV, 7 GND, 8 OUT (out), 10 V+ (power), 12 CMP, 14 -IN

## OP07*
designator IC?, comment <b>OP AMP</b>
footprint DIL08
pins: 1 ON1, 2 -IN, 3 +IN, 4 V- (power), 5 OPT, 6 OUT (out), 7 V+ (power), 8 ON2

## OP07*H
designator IC?, comment <b>OP AMP</b>
footprint TO99
pins: 1 ON1, 2 -IN, 3 +IN, 4 V- (power), 5 OPT, 6 OUT (out), 7 V+ (power), 8 ON2

## OP07*N
designator IC?, comment <b>OP AMP</b>
footprint DIL08
pins: 1 ON1, 2 -IN, 3 +IN, 4 V- (power), 5 OPT, 6 OUT (out), 7 V+ (power), 8 ON2

## OP07*R
designator IC?, comment <b>OP AMP</b>
footprint SO08
pins: 1 ON1, 2 -IN, 3 +IN, 4 V- (power), 5 OPT, 6 OUT (out), 7 V+ (power), 8 ON2

## OP08D
designator IC?, comment <b>OP AMP</b>
footprint SO08
pins: 1 CMP1, 2 -IN, 3 +IN, 4 V- (power), 6 OUT (out), 7 V+ (power), 8 CMP2

## OP08J
designator IC?, comment <b>OP AMP</b>
footprint TO99
pins: 1 CMP1, 2 -IN, 3 +IN, 4 V- (power), 6 OUT (out), 7 V+ (power), 8 CMP2

## OP08N
designator IC?, comment <b>OP AMP</b>
footprint DIL08
pins: 1 CMP1, 2 -IN, 3 +IN, 4 V- (power), 6 OUT (out), 7 V+ (power), 8 CMP2

## OP09D
designator IC?, comment <b>OP AMP</b>
footprint SO14
part A pins: 1 -IN, 2 +IN, 3 OUT (out)
part B pins: 4 OUT (out), 5 +IN, 6 -IN
part C pins: 8 -IN, 9 +IN, 10 OUT (out)
part D pins: 12 OUT (out), 13 +IN, 14 -IN
part E pins: 7 V- (power), 11 V+ (power)

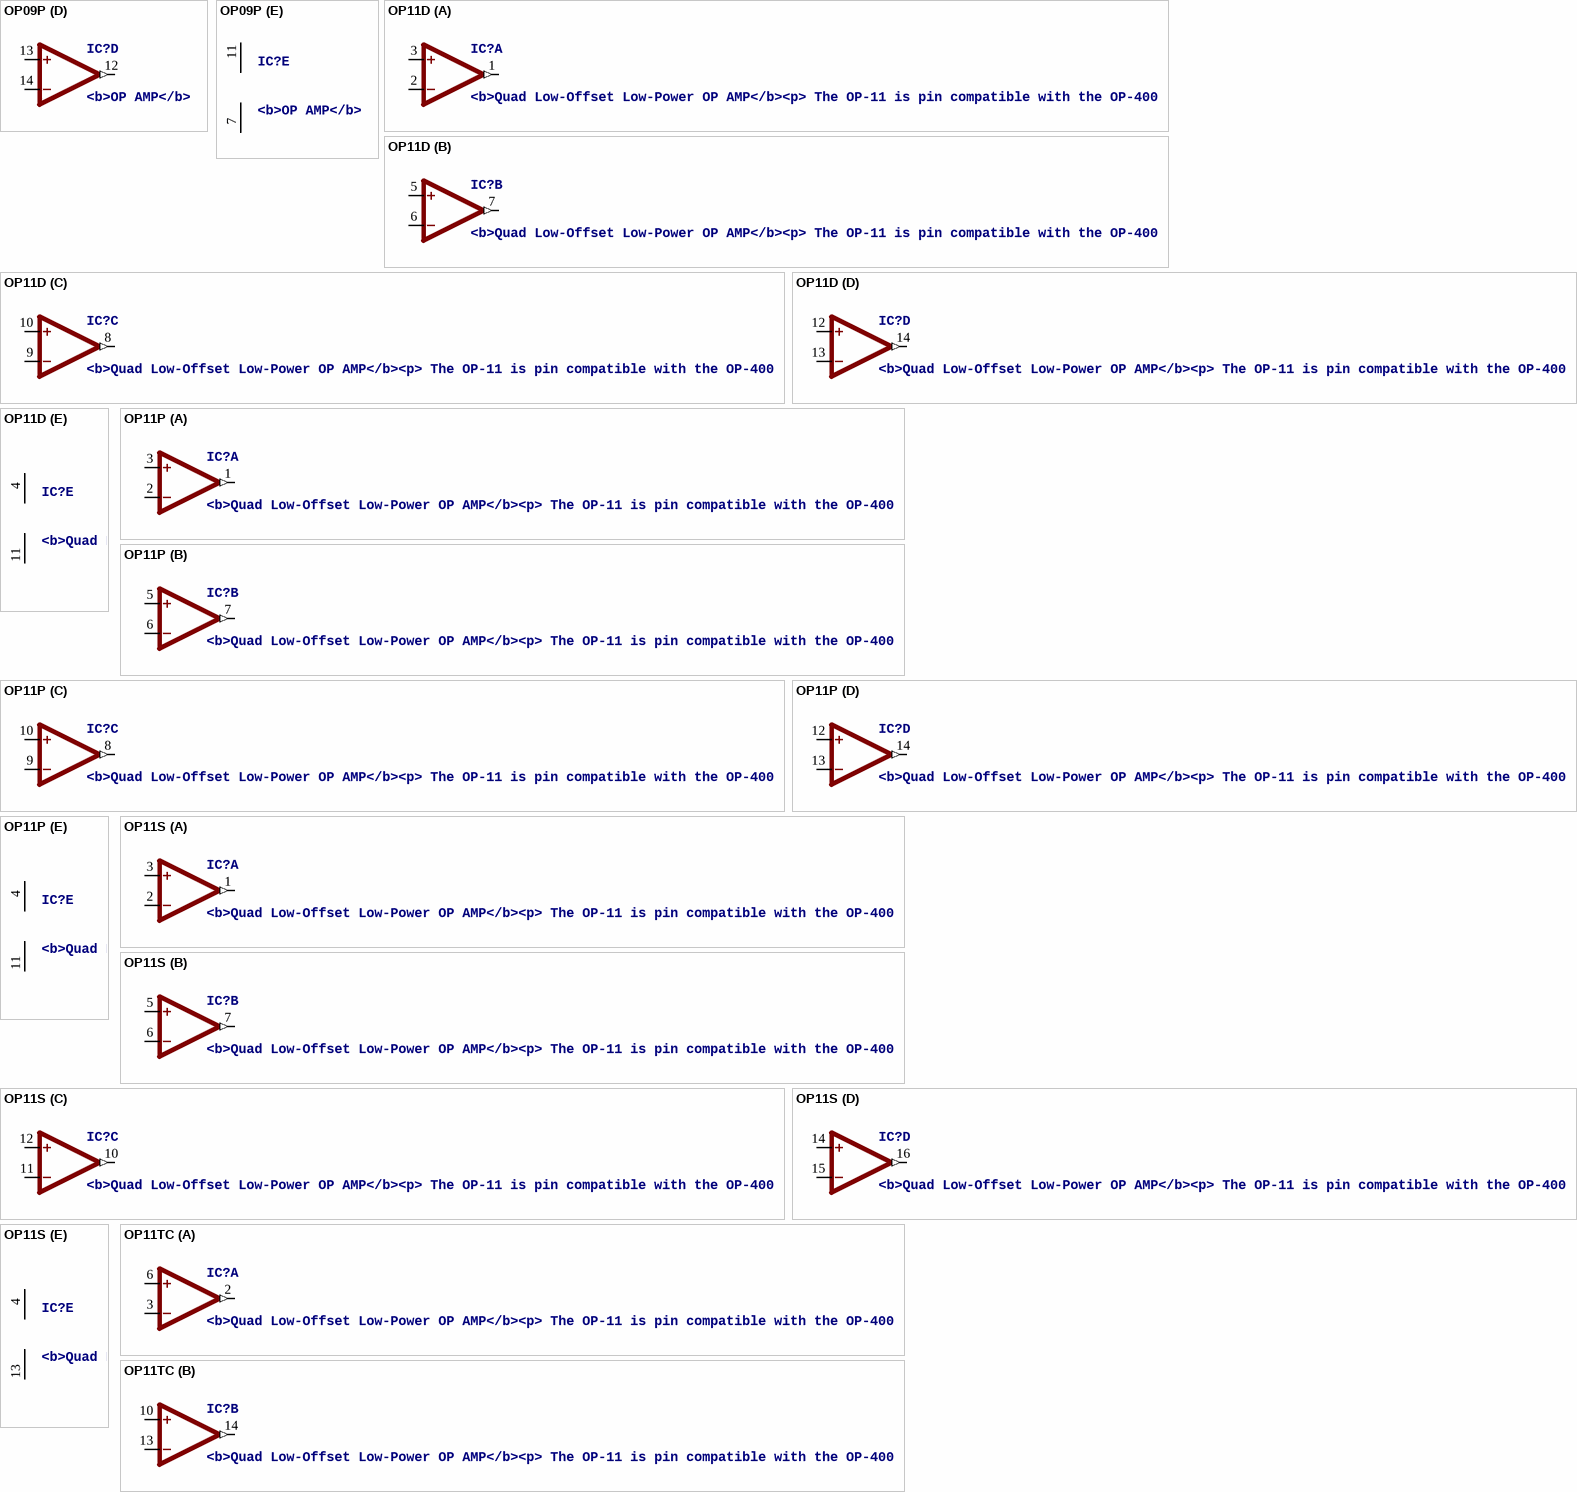
[diagram p26: symbols OP09P to OP11TC]

## OP09P
designator IC?, comment <b>OP AMP</b>
footprint DIL14
part A pins: 1 -IN, 2 +IN, 3 OUT (out)
part B pins: 4 OUT (out), 5 +IN, 6 -IN
part C pins: 8 -IN, 9 +IN, 10 OUT (out)
part D pins: 12 OUT (out), 13 +IN, 14 -IN
part E pins: 7 V- (power), 11 V+ (power)

## OP11D
designator IC?, comment <b>Quad Low-Offset Low-Power OP AMP</b><p> / The OP-11 is pin compatible with the OP-400 , LM148, HA4741, RM4156, and LT1014 operational amplifiers<p> / source  http://products.analog.com/products/info.asp?product=OP400
footprint SO14
part A pins: 1 OUT (out), 2 -IN, 3 +IN
part B pins: 5 +IN, 6 -IN, 7 OUT (out)
part C pins: 8 OUT (out), 9 -IN, 10 +IN
part D pins: 12 +IN, 13 -IN, 14 OUT (out)
part E pins: 4 V+ (power), 11 V- (power)

## OP11P
designator IC?, comment <b>Quad Low-Offset Low-Power OP AMP</b><p> / The OP-11 is pin compatible with the OP-400 , LM148, HA4741, RM4156, and LT1014 operational amplifiers<p> / source  http://products.analog.com/products/info.asp?product=OP400
footprint DIL14
part A pins: 1 OUT (out), 2 -IN, 3 +IN
part B pins: 5 +IN, 6 -IN, 7 OUT (out)
part C pins: 8 OUT (out), 9 -IN, 10 +IN
part D pins: 12 +IN, 13 -IN, 14 OUT (out)
part E pins: 4 V+ (power), 11 V- (power)

## OP11S
designator IC?, comment <b>Quad Low-Offset Low-Power OP AMP</b><p> / The OP-11 is pin compatible with the OP-400 , LM148, HA4741, RM4156, and LT1014 operational amplifiers<p> / source  http://products.analog.com/products/info.asp?product=OP400
footprint DIL16
part A pins: 1 OUT (out), 2 -IN, 3 +IN
part B pins: 5 +IN, 6 -IN, 7 OUT (out)
part C pins: 10 OUT (out), 11 -IN, 12 +IN
part D pins: 14 +IN, 15 -IN, 16 OUT (out)
part E pins: 4 V+ (power), 13 V- (power)

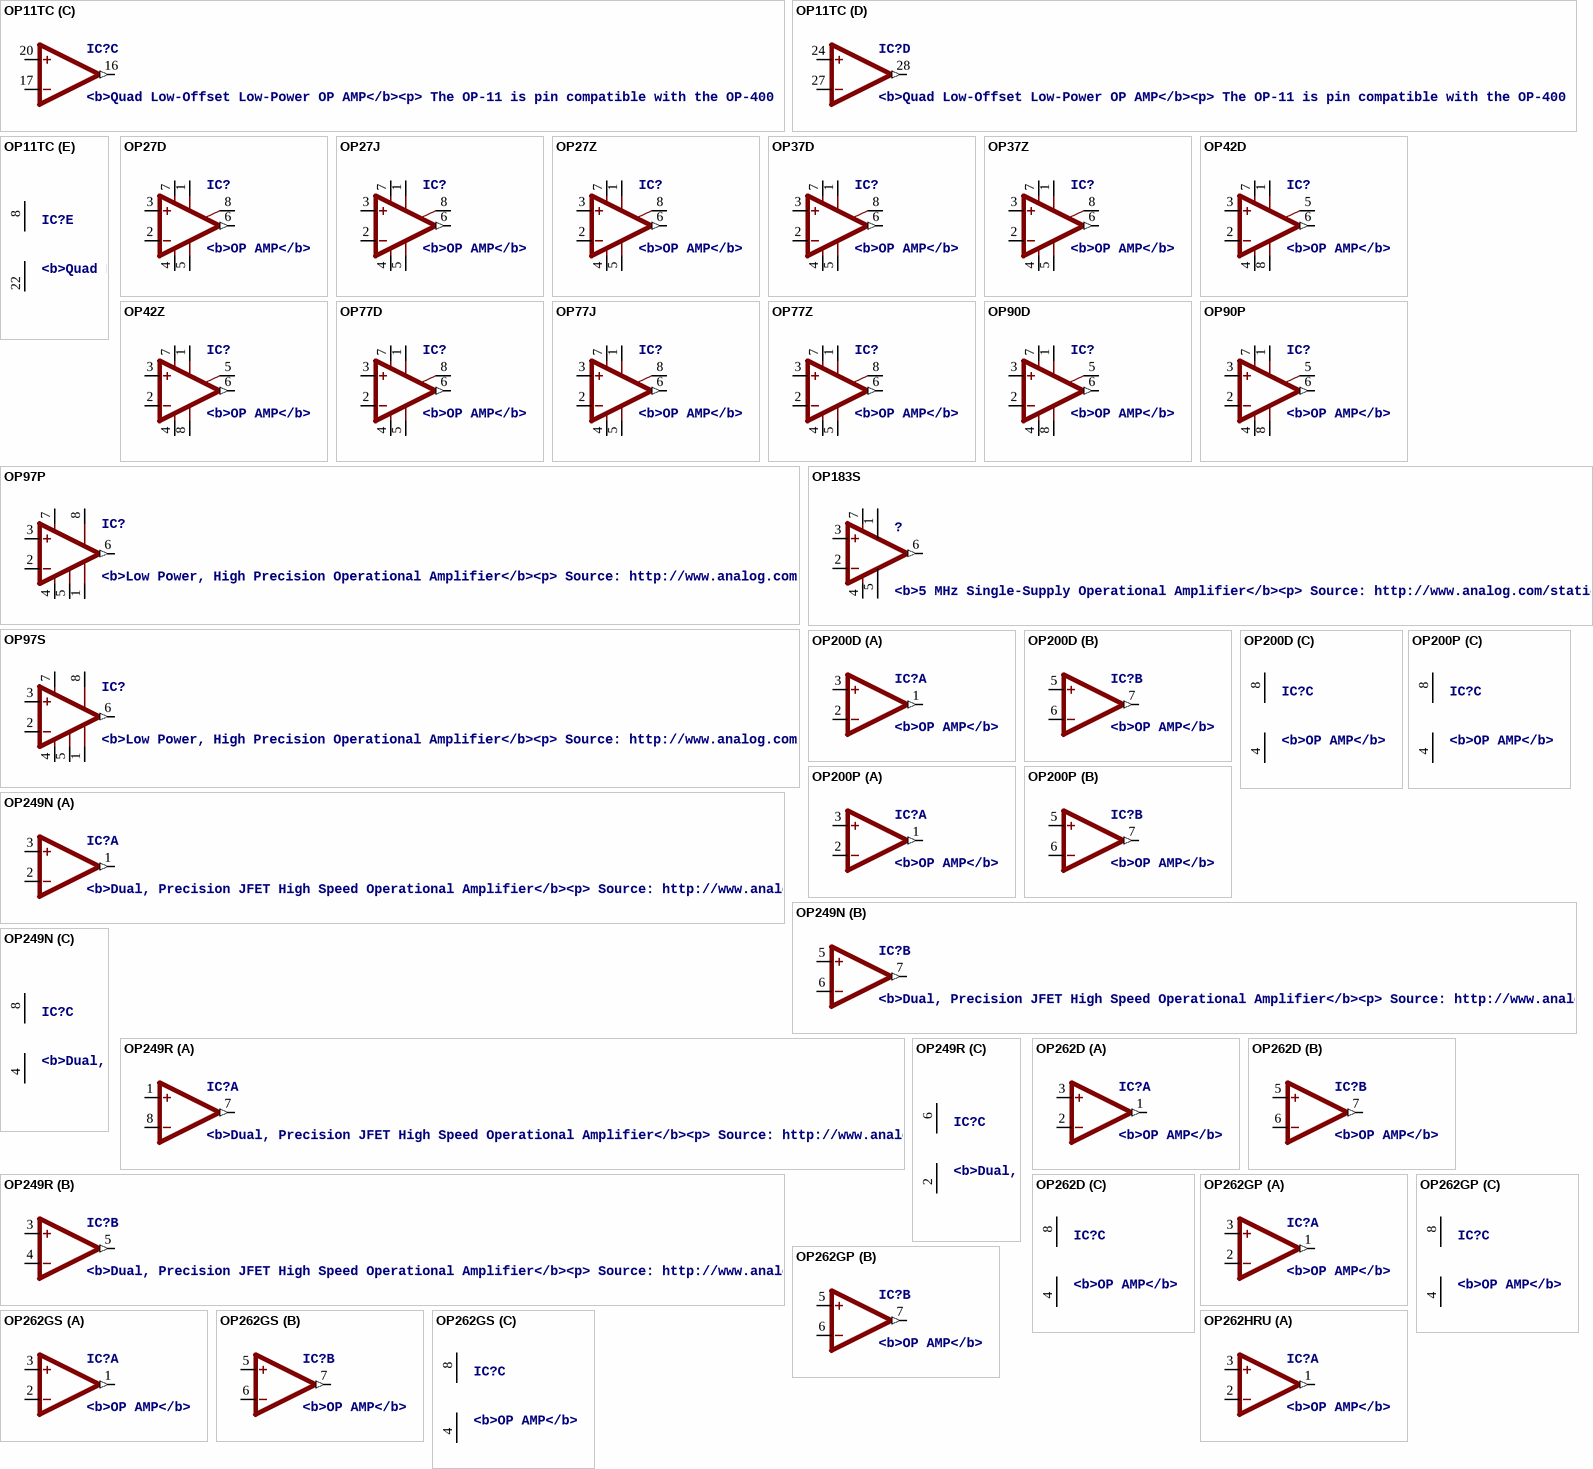
[diagram p27: symbols OP11TC to OP262HRU]

## OP11TC
designator IC?, comment <b>Quad Low-Offset Low-Power OP AMP</b><p> / The OP-11 is pin compatible with the OP-400 , LM148, HA4741, RM4156, and LT1014 operational amplifiers<p> / source  http://products.analog.com/products/info.asp?product=OP400
footprint PLCC28S
part A pins: 2 OUT (out), 3 -IN, 6 +IN
part B pins: 10 +IN, 13 -IN, 14 OUT (out)
part C pins: 16 OUT (out), 17 -IN, 20 +IN
part D pins: 24 +IN, 27 -IN, 28 OUT (out)
part E pins: 8 V+ (power), 22 V- (power)

## OP27D
designator IC?, comment <b>OP AMP</b>
footprint SO08
pins: 1 ON1, 2 -IN, 3 +IN, 4 V- (power), 5 OPT, 6 OUT (out), 7 V+ (power), 8 ON2

## OP27J
designator IC?, comment <b>OP AMP</b>
footprint TO99
pins: 1 ON1, 2 -IN, 3 +IN, 4 V- (power), 5 OPT, 6 OUT (out), 7 V+ (power), 8 ON2

## OP27Z
designator IC?, comment <b>OP AMP</b>
footprint DIL08
pins: 1 ON1, 2 -IN, 3 +IN, 4 V- (power), 5 OPT, 6 OUT (out), 7 V+ (power), 8 ON2

## OP37D
designator IC?, comment <b>OP AMP</b>
footprint SO08
pins: 1 ON1, 2 -IN, 3 +IN, 4 V- (power), 5 OPT, 6 OUT (out), 7 V+ (power), 8 ON2

## OP37Z
designator IC?, comment <b>OP AMP</b>
footprint DIL08
pins: 1 ON1, 2 -IN, 3 +IN, 4 V- (power), 5 OPT, 6 OUT (out), 7 V+ (power), 8 ON2

## OP42D
designator IC?, comment <b>OP AMP</b>
footprint SO08
pins: 1 ON1, 2 -IN, 3 +IN, 4 V- (power), 5 ON2, 6 OUT (out), 7 V+ (power), 8 OPT

## OP42Z
designator IC?, comment <b>OP AMP</b>
footprint DIL08
pins: 1 ON1, 2 -IN, 3 +IN, 4 V- (power), 5 ON2, 6 OUT (out), 7 V+ (power), 8 OPT

## OP77D
designator IC?, comment <b>OP AMP</b>
footprint SO08
pins: 1 ON1, 2 -IN, 3 +IN, 4 V- (power), 5 OPT, 6 OUT (out), 7 V+ (power), 8 ON2

## OP77J
designator IC?, comment <b>OP AMP</b>
footprint TO99
pins: 1 ON1, 2 -IN, 3 +IN, 4 V- (power), 5 OPT, 6 OUT (out), 7 V+ (power), 8 ON2

## OP77Z
designator IC?, comment <b>OP AMP</b>
footprint DIL08
pins: 1 ON1, 2 -IN, 3 +IN, 4 V- (power), 5 OPT, 6 OUT (out), 7 V+ (power), 8 ON2

## OP90D
designator IC?, comment <b>OP AMP</b>
footprint SO08
pins: 1 ON1, 2 -IN, 3 +IN, 4 V- (power), 5 ON2, 6 OUT (out), 7 V+ (power), 8 OPT

## OP90P
designator IC?, comment <b>OP AMP</b>
footprint DIL08
pins: 1 ON1, 2 -IN, 3 +IN, 4 V- (power), 5 ON2, 6 OUT (out), 7 V+ (power), 8 OPT

## OP97P
designator IC?, comment <b>Low Power, High Precision Operational Amplifier</b><p> / Source: http://www.analog.com/static/imported-files/data_sheets/OP97.pdf
footprint DIL08
pins: 1 BAL1, 2 -IN, 3 +IN, 4 V- (power), 5 COMP, 6 OUT (out), 7 V+ (power), 8 BAL2

## OP97S
designator IC?, comment <b>Low Power, High Precision Operational Amplifier</b><p> / Source: http://www.analog.com/static/imported-files/data_sheets/OP97.pdf
footprint SO08
pins: 1 BAL1, 2 -IN, 3 +IN, 4 V- (power), 5 COMP, 6 OUT (out), 7 V+ (power), 8 BAL2

## OP183S
designator ?, comment <b>5 MHz Single-Supply Operational Amplifier</b><p> / Source: http://www.analog.com/static/imported-files/data_sheets/OP183.pdf
footprint SO08
pins: 1 OFF1, 2 -IN, 3 +IN, 4 V- (power), 5 OFF2, 6 OUT (out), 7 V+ (power)

## OP200D
designator IC?, comment <b>OP AMP</b>
footprint SO08
part A pins: 1 OUT (out), 2 -IN, 3 +IN
part B pins: 5 +IN, 6 -IN, 7 OUT (out)
part C pins: 4 V- (power), 8 V+ (power)

## OP200P
designator IC?, comment <b>OP AMP</b>
footprint DIL08
part A pins: 1 OUT (out), 2 -IN, 3 +IN
part B pins: 5 +IN, 6 -IN, 7 OUT (out)
part C pins: 4 V- (power), 8 V+ (power)

## OP249N
designator IC?, comment <b>Dual, Precision JFET High Speed Operational Amplifier</b><p> / Source: http://www.analog.com/static/imported-files/data_sheets/OP249.pdf
footprint DIL08
part A pins: 1 OUT (out), 2 -IN, 3 +IN
part B pins: 5 +IN, 6 -IN, 7 OUT (out)
part C pins: 4 V- (power), 8 V+ (power)

## OP249R
designator IC?, comment <b>Dual, Precision JFET High Speed Operational Amplifier</b><p> / Source: http://www.analog.com/static/imported-files/data_sheets/OP249.pdf
footprint SO08
part A pins: 1 +IN, 7 OUT (out), 8 -IN
part B pins: 3 +IN, 4 -IN, 5 OUT (out)
part C pins: 2 V- (power), 6 V+ (power)

## OP262D
designator IC?, comment <b>OP AMP</b>
footprint SO08
part A pins: 1 OUT (out), 2 -IN, 3 +IN
part B pins: 5 +IN, 6 -IN, 7 OUT (out)
part C pins: 4 V- (power), 8 V+ (power)

## OP262GP
designator IC?, comment <b>OP AMP</b>
footprint DIL08
part A pins: 1 OUT (out), 2 -IN, 3 +IN
part B pins: 5 +IN, 6 -IN, 7 OUT (out)
part C pins: 4 V- (power), 8 V+ (power)

## OP262GS
designator IC?, comment <b>OP AMP</b>
footprint SO08
part A pins: 1 OUT (out), 2 -IN, 3 +IN
part B pins: 5 +IN, 6 -IN, 7 OUT (out)
part C pins: 4 V- (power), 8 V+ (power)

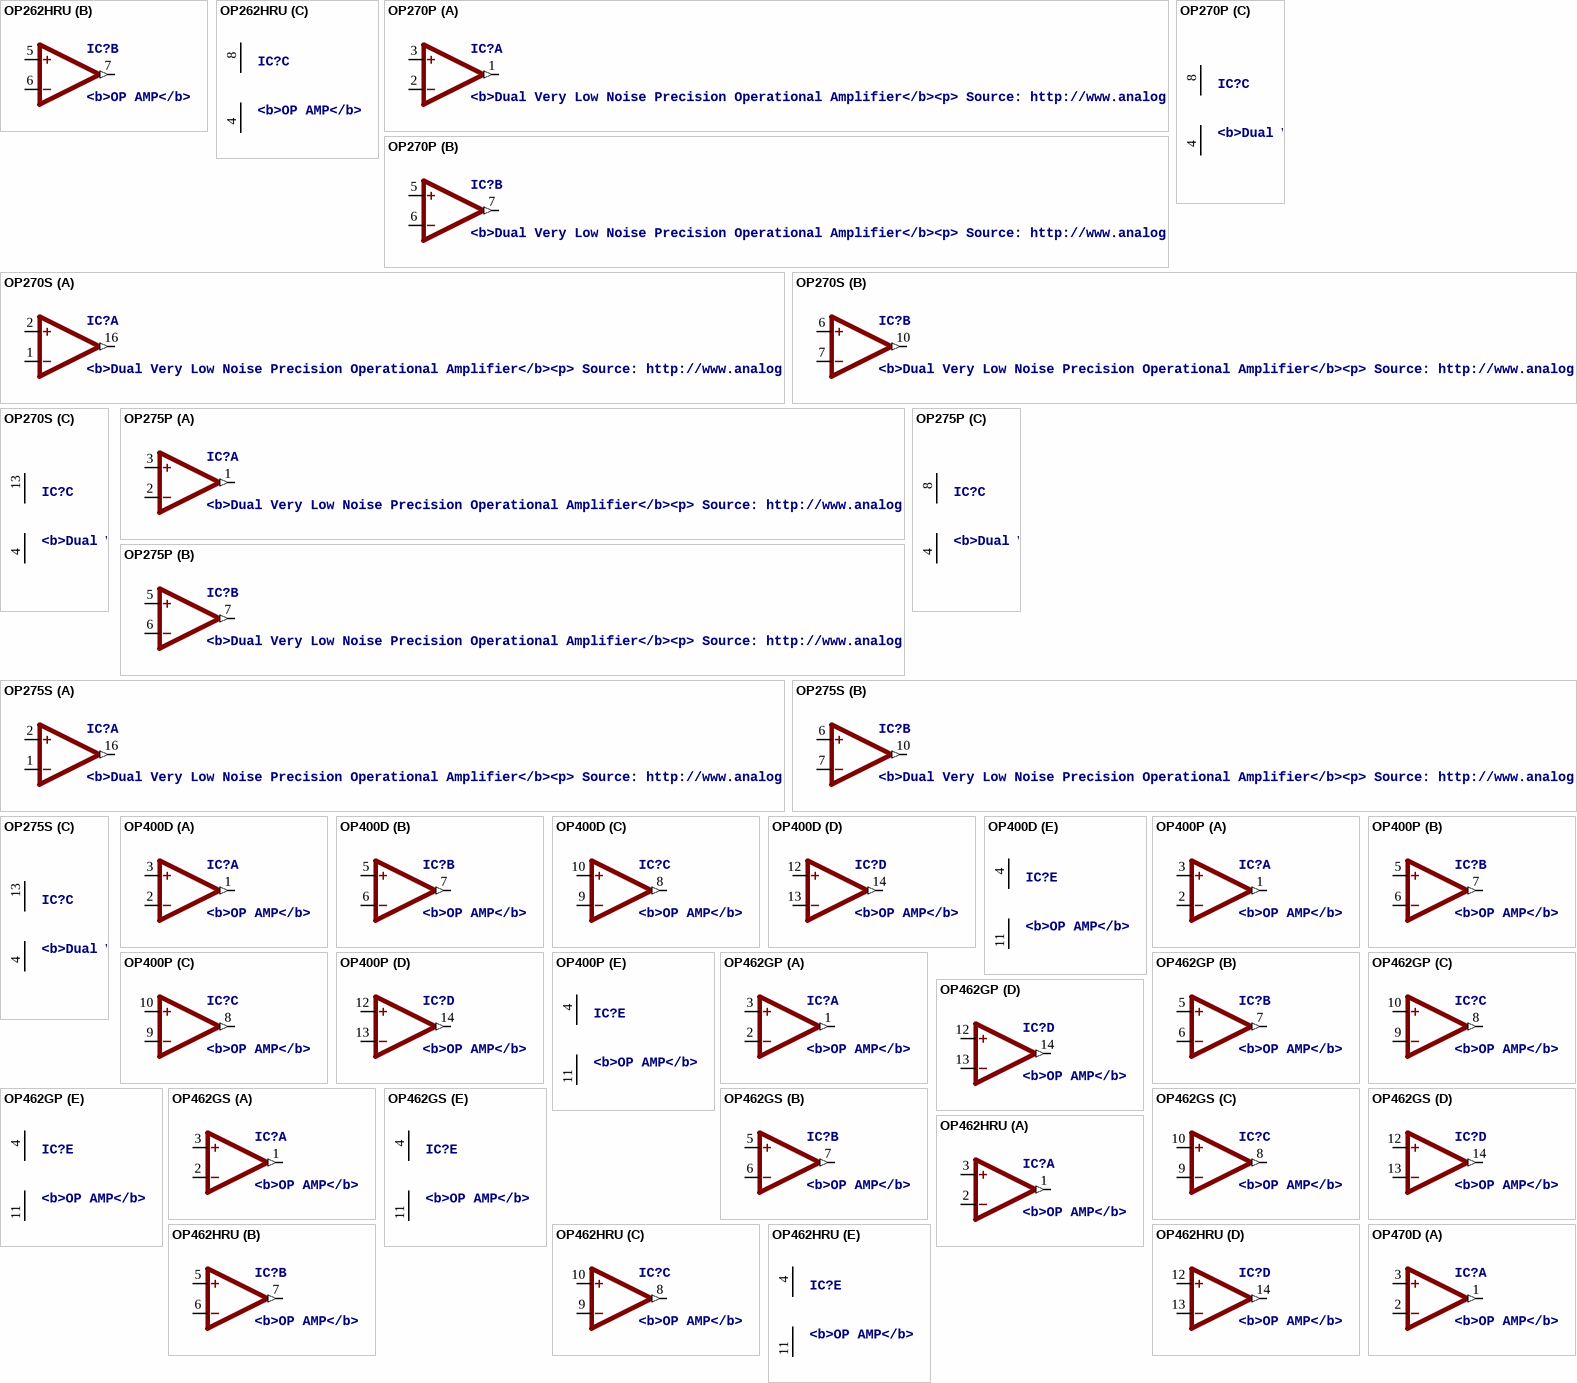
[diagram p28: symbols OP262HRU to OP470D]

## OP262HRU
designator IC?, comment <b>OP AMP</b>
footprint TSSOP8
part A pins: 1 OUT (out), 2 -IN, 3 +IN
part B pins: 5 +IN, 6 -IN, 7 OUT (out)
part C pins: 4 V- (power), 8 V+ (power)

## OP270P
designator IC?, comment <b>Dual Very Low Noise Precision Operational Amplifier</b><p> / Source: http://www.analog.com/static/imported-files/data_sheets/OP270.pdf
footprint DIL08
part A pins: 1 OUT (out), 2 -IN, 3 +IN
part B pins: 5 +IN, 6 -IN, 7 OUT (out)
part C pins: 4 V- (power), 8 V+ (power)

## OP270S
designator IC?, comment <b>Dual Very Low Noise Precision Operational Amplifier</b><p> / Source: http://www.analog.com/static/imported-files/data_sheets/OP270.pdf
footprint SO16
part A pins: 1 -IN, 2 +IN, 16 OUT (out)
part B pins: 6 +IN, 7 -IN, 10 OUT (out)
part C pins: 4 V- (power), 13 V+ (power)

## OP275P
designator IC?, comment <b>Dual Very Low Noise Precision Operational Amplifier</b><p> / Source: http://www.analog.com/static/imported-files/data_sheets/OP270.pdf
footprint DIL08
part A pins: 1 OUT (out), 2 -IN, 3 +IN
part B pins: 5 +IN, 6 -IN, 7 OUT (out)
part C pins: 4 V- (power), 8 V+ (power)

## OP275S
designator IC?, comment <b>Dual Very Low Noise Precision Operational Amplifier</b><p> / Source: http://www.analog.com/static/imported-files/data_sheets/OP270.pdf
footprint SO16
part A pins: 1 -IN, 2 +IN, 16 OUT (out)
part B pins: 6 +IN, 7 -IN, 10 OUT (out)
part C pins: 4 V- (power), 13 V+ (power)

## OP400D
designator IC?, comment <b>OP AMP</b>
footprint SO14
part A pins: 1 OUT (out), 2 -IN, 3 +IN
part B pins: 5 +IN, 6 -IN, 7 OUT (out)
part C pins: 8 OUT (out), 9 -IN, 10 +IN
part D pins: 12 +IN, 13 -IN, 14 OUT (out)
part E pins: 4 V+ (power), 11 V- (power)

## OP400P
designator IC?, comment <b>OP AMP</b>
footprint DIL14
part A pins: 1 OUT (out), 2 -IN, 3 +IN
part B pins: 5 +IN, 6 -IN, 7 OUT (out)
part C pins: 8 OUT (out), 9 -IN, 10 +IN
part D pins: 12 +IN, 13 -IN, 14 OUT (out)
part E pins: 4 V+ (power), 11 V- (power)

## OP462GP
designator IC?, comment <b>OP AMP</b>
footprint DIL14
part A pins: 1 OUT (out), 2 -IN, 3 +IN
part B pins: 5 +IN, 6 -IN, 7 OUT (out)
part C pins: 8 OUT (out), 9 -IN, 10 +IN
part D pins: 12 +IN, 13 -IN, 14 OUT (out)
part E pins: 4 V+ (power), 11 V- (power)

## OP462GS
designator IC?, comment <b>OP AMP</b>
footprint SO14
part A pins: 1 OUT (out), 2 -IN, 3 +IN
part B pins: 5 +IN, 6 -IN, 7 OUT (out)
part C pins: 8 OUT (out), 9 -IN, 10 +IN
part D pins: 12 +IN, 13 -IN, 14 OUT (out)
part E pins: 4 V+ (power), 11 V- (power)

## OP462HRU
designator IC?, comment <b>OP AMP</b>
footprint TSSOP14
part A pins: 1 OUT (out), 2 -IN, 3 +IN
part B pins: 5 +IN, 6 -IN, 7 OUT (out)
part C pins: 8 OUT (out), 9 -IN, 10 +IN
part D pins: 12 +IN, 13 -IN, 14 OUT (out)
part E pins: 4 V+ (power), 11 V- (power)

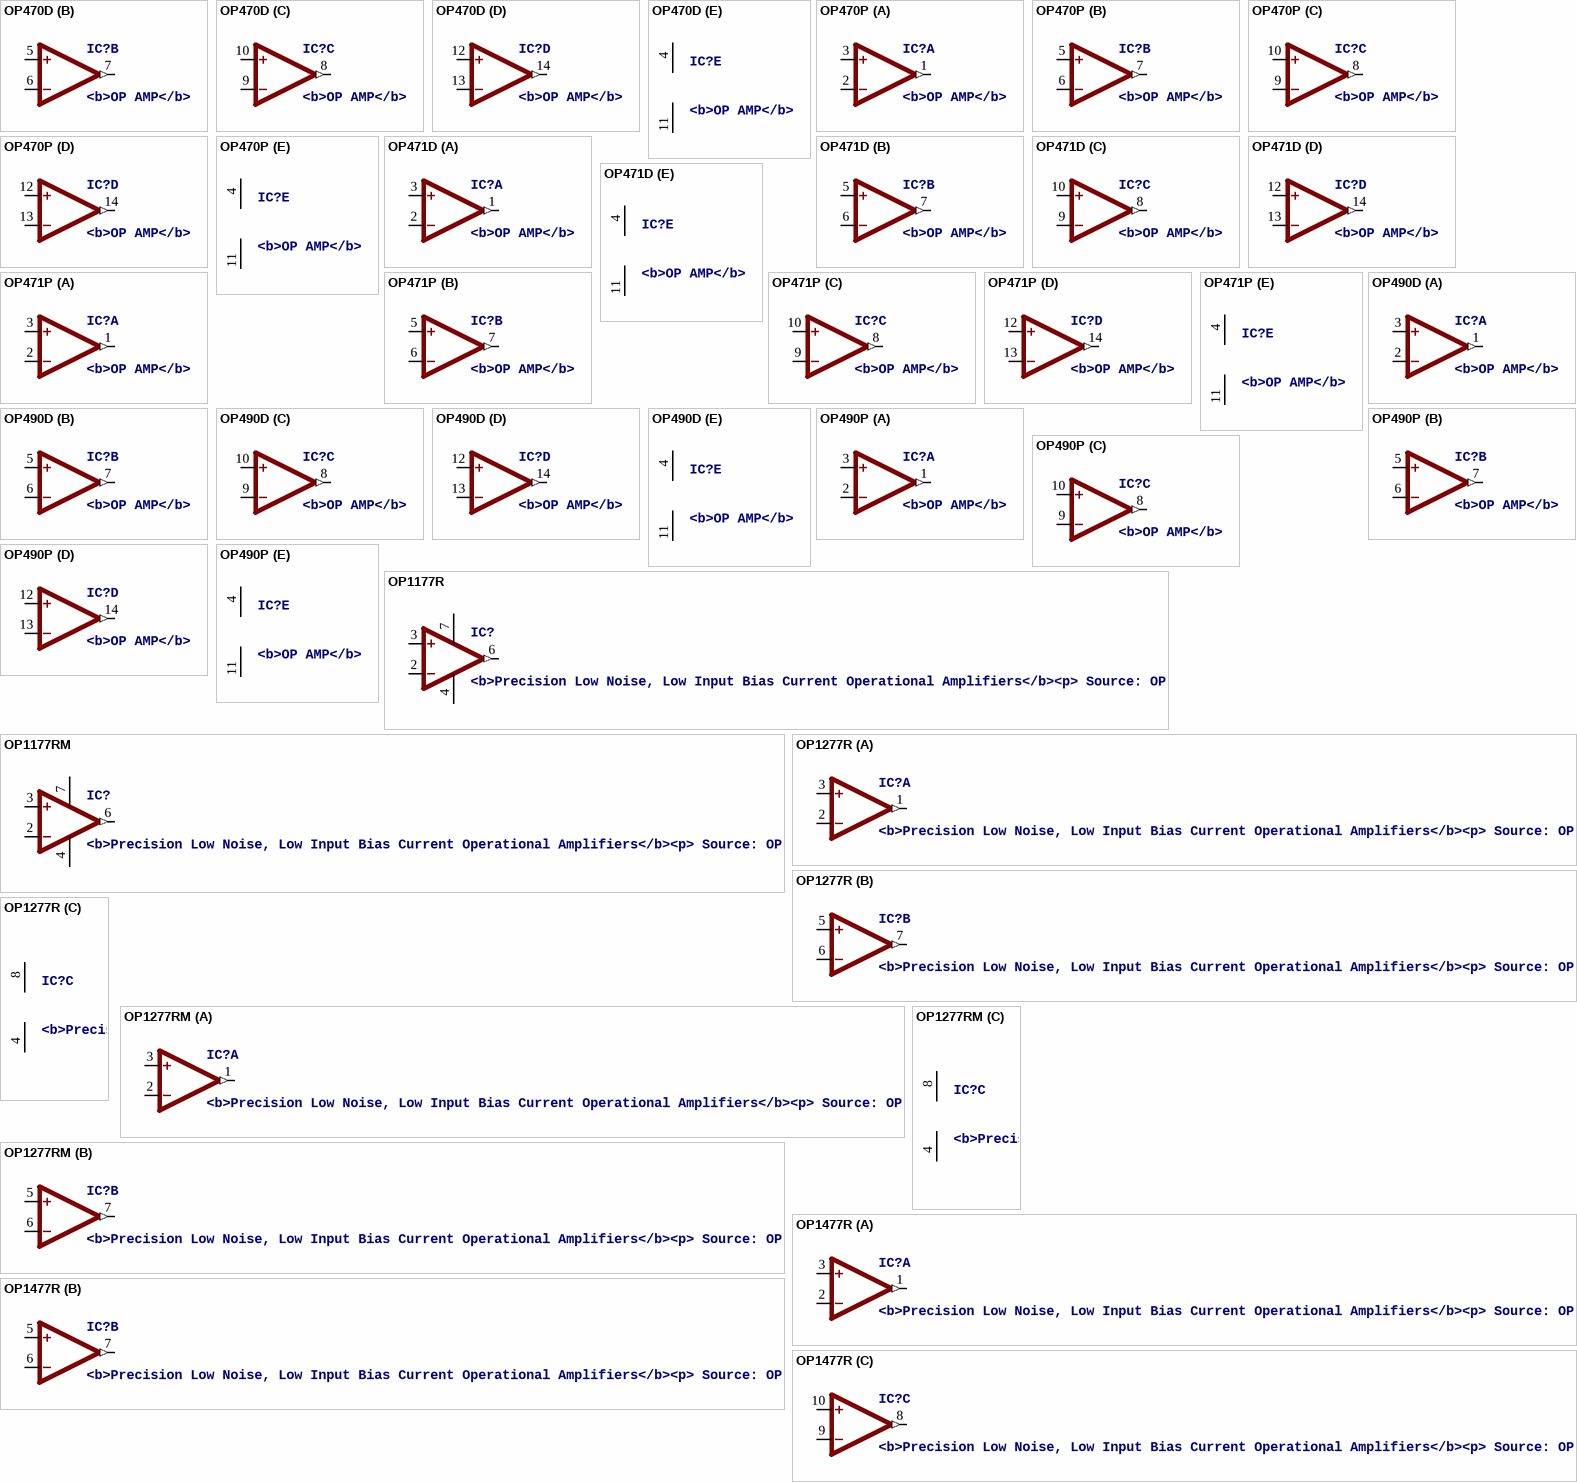
[diagram p29: symbols OP470D to OP1477R]

## OP470D
designator IC?, comment <b>OP AMP</b>
footprint SO14
part A pins: 1 OUT (out), 2 -IN, 3 +IN
part B pins: 5 +IN, 6 -IN, 7 OUT (out)
part C pins: 8 OUT (out), 9 -IN, 10 +IN
part D pins: 12 +IN, 13 -IN, 14 OUT (out)
part E pins: 4 V+ (power), 11 V- (power)

## OP470P
designator IC?, comment <b>OP AMP</b>
footprint DIL14
part A pins: 1 OUT (out), 2 -IN, 3 +IN
part B pins: 5 +IN, 6 -IN, 7 OUT (out)
part C pins: 8 OUT (out), 9 -IN, 10 +IN
part D pins: 12 +IN, 13 -IN, 14 OUT (out)
part E pins: 4 V+ (power), 11 V- (power)

## OP471D
designator IC?, comment <b>OP AMP</b>
footprint SO14
part A pins: 1 OUT (out), 2 -IN, 3 +IN
part B pins: 5 +IN, 6 -IN, 7 OUT (out)
part C pins: 8 OUT (out), 9 -IN, 10 +IN
part D pins: 12 +IN, 13 -IN, 14 OUT (out)
part E pins: 4 V+ (power), 11 V- (power)

## OP471P
designator IC?, comment <b>OP AMP</b>
footprint DIL14
part A pins: 1 OUT (out), 2 -IN, 3 +IN
part B pins: 5 +IN, 6 -IN, 7 OUT (out)
part C pins: 8 OUT (out), 9 -IN, 10 +IN
part D pins: 12 +IN, 13 -IN, 14 OUT (out)
part E pins: 4 V+ (power), 11 V- (power)

## OP490D
designator IC?, comment <b>OP AMP</b>
footprint SO14
part A pins: 1 OUT (out), 2 -IN, 3 +IN
part B pins: 5 +IN, 6 -IN, 7 OUT (out)
part C pins: 8 OUT (out), 9 -IN, 10 +IN
part D pins: 12 +IN, 13 -IN, 14 OUT (out)
part E pins: 4 V+ (power), 11 V- (power)